# Altium integrated library PLD Supported Devices.IntLib: 344 symbols (part 5 of 6)
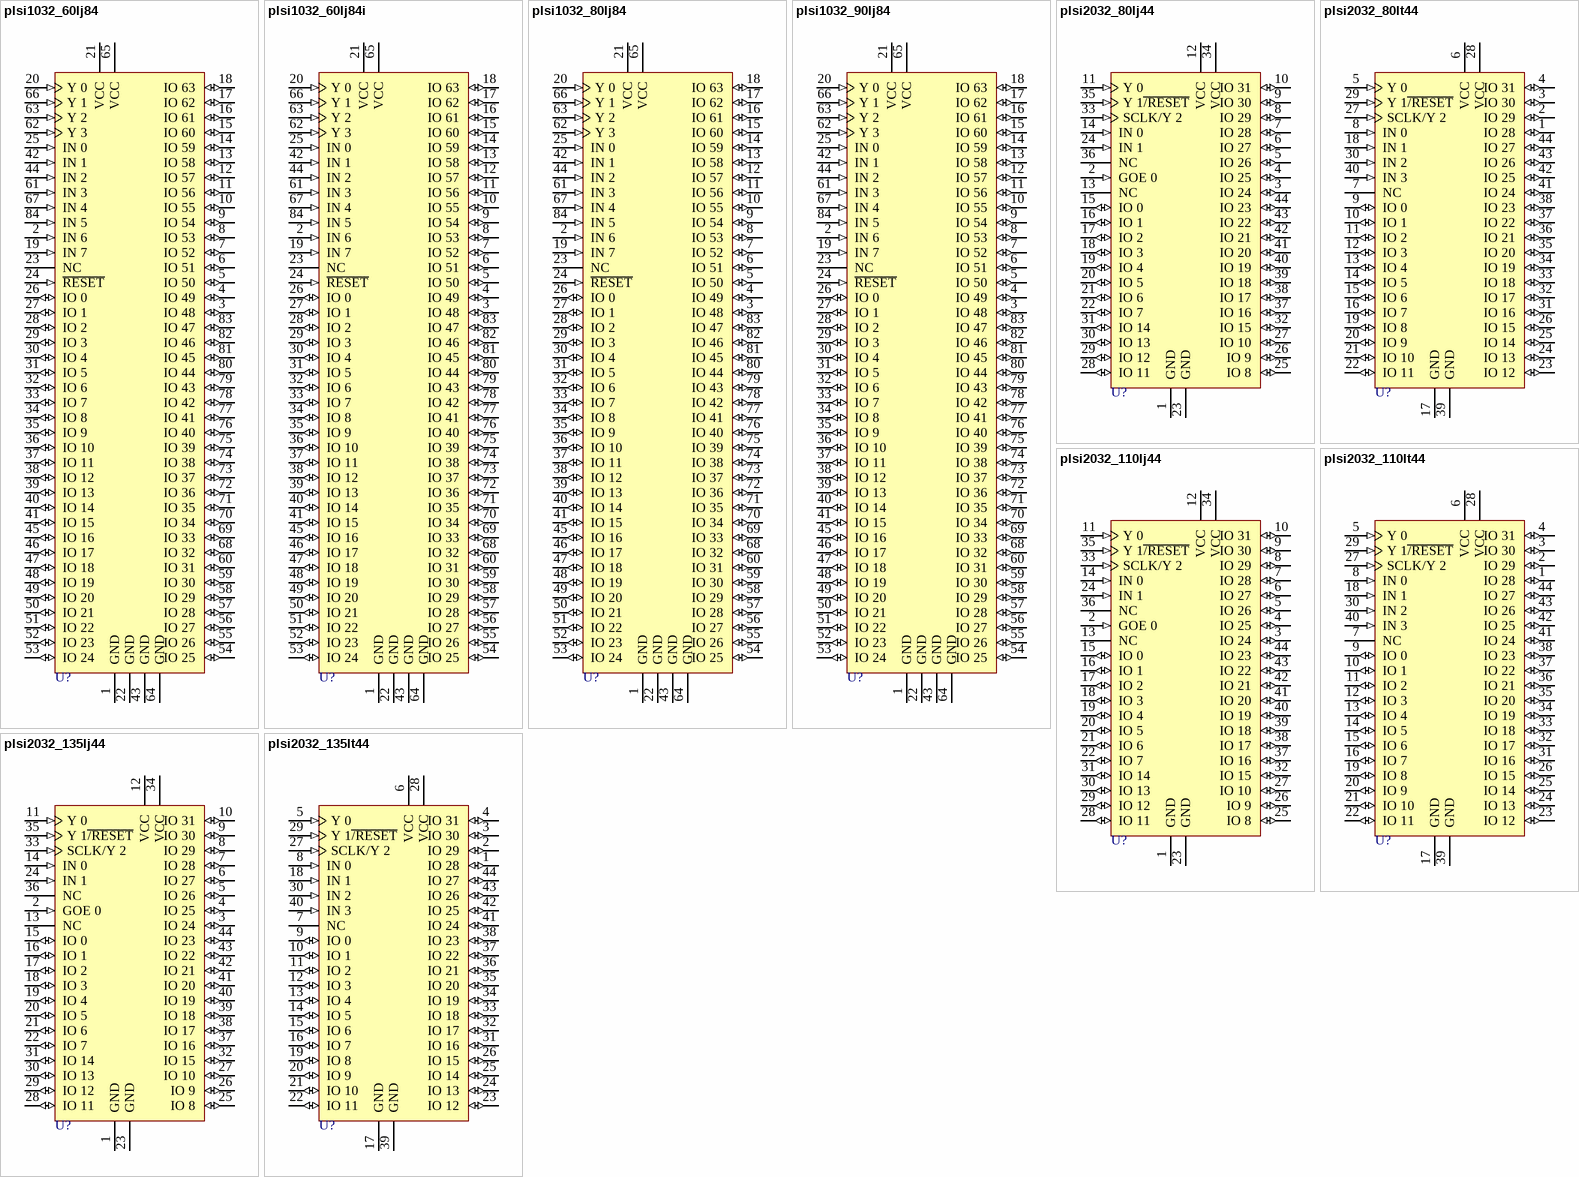
[diagram p22: symbols plsi1032_60lj84 to plsi2032_135lt44]

## plsi1032_60lj84i
designator U?
Programmable Large Scale Integration High-Density Programmable Logic; Published: 16-Jul-2002; LatestRevisionDate: 17-Jul-2002; LatestRevisionNote: Re-released for DXP Platform.; Publisher: Altium Limited
footprint QCC-J84
pins: 1 GND (power), 2 IN 6 (in), 3 IO 48 (io), 4 IO 49 (io), 5 IO 50 (io), 6 IO 51 (io), 7 IO 52 (io), 8 IO 53 (io), 9 IO 54 (io), 10 IO 55 (io), 11 IO 56 (io), 12 IO 57 (io), 13 IO 58 (io), 14 IO 59 (io), 15 IO 60 (io), 16 IO 61 (io), 17 IO 62 (io), 18 IO 63 (io), 19 IN 7 (in), 20 Y 0 (in), 21 VCC (power), 22 GND (power), 23 NC, 24 ~{RESET} (in), 25 IN 0 (in), 26 IO 0 (io), 27 IO 1 (io), 28 IO 2 (io), 29 IO 3 (io), 30 IO 4 (io), 31 IO 5 (io), 32 IO 6 (io), 33 IO 7 (io), 34 IO 8 (io), 35 IO 9 (io), 36 IO 10 (io), 37 IO 11 (io), 38 IO 12 (io), 39 IO 13 (io), 40 IO 14 (io), 41 IO 15 (io), 42 IN 1 (in), 43 GND (power), 44 IN 2 (in), 45 IO 16 (io), 46 IO 17 (io), 47 IO 18 (io), 48 IO 19 (io), 49 IO 20 (io), 50 IO 21 (io), 51 IO 22 (io), 52 IO 23 (io), 53 IO 24 (io), 54 IO 25 (io), 55 IO 26 (io), 56 IO 27 (io), 57 IO 28 (io), 58 IO 29 (io), 59 IO 30 (io), 60 IO 31 (io), 61 IN 3 (in), 62 Y 3 (in), 63 Y 2 (in), 64 GND (power), 65 VCC (power), 66 Y 1 (in), 67 IN 4 (in), 68 IO 32 (io), 69 IO 33 (io), 70 IO 34 (io), 71 IO 35 (io), 72 IO 36 (io), 73 IO 37 (io), 74 IO 38 (io), 75 IO 39 (io), 76 IO 40 (io), 77 IO 41 (io), 78 IO 42 (io), 79 IO 43 (io), 80 IO 44 (io), 81 IO 45 (io), 82 IO 46 (io), 83 IO 47 (io), 84 IN 5 (in)

## plsi1032_80lj84
designator U?
Programmable Large Scale Integration High-Density Programmable Logic; Published: 16-Jul-2002; LatestRevisionDate: 17-Jul-2002; LatestRevisionNote: Re-released for DXP Platform.; Publisher: Altium Limited
footprint QCC-J84
pins: 1 GND (power), 2 IN 6 (in), 3 IO 48 (io), 4 IO 49 (io), 5 IO 50 (io), 6 IO 51 (io), 7 IO 52 (io), 8 IO 53 (io), 9 IO 54 (io), 10 IO 55 (io), 11 IO 56 (io), 12 IO 57 (io), 13 IO 58 (io), 14 IO 59 (io), 15 IO 60 (io), 16 IO 61 (io), 17 IO 62 (io), 18 IO 63 (io), 19 IN 7 (in), 20 Y 0 (in), 21 VCC (power), 22 GND (power), 23 NC, 24 ~{RESET} (in), 25 IN 0 (in), 26 IO 0 (io), 27 IO 1 (io), 28 IO 2 (io), 29 IO 3 (io), 30 IO 4 (io), 31 IO 5 (io), 32 IO 6 (io), 33 IO 7 (io), 34 IO 8 (io), 35 IO 9 (io), 36 IO 10 (io), 37 IO 11 (io), 38 IO 12 (io), 39 IO 13 (io), 40 IO 14 (io), 41 IO 15 (io), 42 IN 1 (in), 43 GND (power), 44 IN 2 (in), 45 IO 16 (io), 46 IO 17 (io), 47 IO 18 (io), 48 IO 19 (io), 49 IO 20 (io), 50 IO 21 (io), 51 IO 22 (io), 52 IO 23 (io), 53 IO 24 (io), 54 IO 25 (io), 55 IO 26 (io), 56 IO 27 (io), 57 IO 28 (io), 58 IO 29 (io), 59 IO 30 (io), 60 IO 31 (io), 61 IN 3 (in), 62 Y 3 (in), 63 Y 2 (in), 64 GND (power), 65 VCC (power), 66 Y 1 (in), 67 IN 4 (in), 68 IO 32 (io), 69 IO 33 (io), 70 IO 34 (io), 71 IO 35 (io), 72 IO 36 (io), 73 IO 37 (io), 74 IO 38 (io), 75 IO 39 (io), 76 IO 40 (io), 77 IO 41 (io), 78 IO 42 (io), 79 IO 43 (io), 80 IO 44 (io), 81 IO 45 (io), 82 IO 46 (io), 83 IO 47 (io), 84 IN 5 (in)

## plsi1032_90lj84
designator U?
Programmable Large Scale Integration High-Density Programmable Logic; Published: 16-Jul-2002; LatestRevisionDate: 17-Jul-2002; LatestRevisionNote: Re-released for DXP Platform.; Publisher: Altium Limited
footprint QCC-J84
pins: 1 GND (power), 2 IN 6 (in), 3 IO 48 (io), 4 IO 49 (io), 5 IO 50 (io), 6 IO 51 (io), 7 IO 52 (io), 8 IO 53 (io), 9 IO 54 (io), 10 IO 55 (io), 11 IO 56 (io), 12 IO 57 (io), 13 IO 58 (io), 14 IO 59 (io), 15 IO 60 (io), 16 IO 61 (io), 17 IO 62 (io), 18 IO 63 (io), 19 IN 7 (in), 20 Y 0 (in), 21 VCC (power), 22 GND (power), 23 NC, 24 ~{RESET} (in), 25 IN 0 (in), 26 IO 0 (io), 27 IO 1 (io), 28 IO 2 (io), 29 IO 3 (io), 30 IO 4 (io), 31 IO 5 (io), 32 IO 6 (io), 33 IO 7 (io), 34 IO 8 (io), 35 IO 9 (io), 36 IO 10 (io), 37 IO 11 (io), 38 IO 12 (io), 39 IO 13 (io), 40 IO 14 (io), 41 IO 15 (io), 42 IN 1 (in), 43 GND (power), 44 IN 2 (in), 45 IO 16 (io), 46 IO 17 (io), 47 IO 18 (io), 48 IO 19 (io), 49 IO 20 (io), 50 IO 21 (io), 51 IO 22 (io), 52 IO 23 (io), 53 IO 24 (io), 54 IO 25 (io), 55 IO 26 (io), 56 IO 27 (io), 57 IO 28 (io), 58 IO 29 (io), 59 IO 30 (io), 60 IO 31 (io), 61 IN 3 (in), 62 Y 3 (in), 63 Y 2 (in), 64 GND (power), 65 VCC (power), 66 Y 1 (in), 67 IN 4 (in), 68 IO 32 (io), 69 IO 33 (io), 70 IO 34 (io), 71 IO 35 (io), 72 IO 36 (io), 73 IO 37 (io), 74 IO 38 (io), 75 IO 39 (io), 76 IO 40 (io), 77 IO 41 (io), 78 IO 42 (io), 79 IO 43 (io), 80 IO 44 (io), 81 IO 45 (io), 82 IO 46 (io), 83 IO 47 (io), 84 IN 5 (in)

## plsi2032_80lj44
designator U?
In-System Programmable Large Scale Integration High-Density Programmable Logic; Published: 16-Jul-2002; LatestRevisionDate: 17-Jul-2002; LatestRevisionNote: Re-released for DXP Platform.; Publisher: Altium Limited
footprint QCC-J44
pins: 1 GND (power), 2 GOE 0 (in), 3 IO 24 (io), 4 IO 25 (io), 5 IO 26 (io), 6 IO 27 (io), 7 IO 28 (io), 8 IO 29 (io), 9 IO 30 (io), 10 IO 31 (io), 11 Y 0 (in), 12 VCC (power), 13 NC, 14 IN 0 (in), 15 IO 0 (io), 16 IO 1 (io), 17 IO 2 (io), 18 IO 3 (io), 19 IO 4 (io), 20 IO 5 (io), 21 IO 6 (io), 22 IO 7 (io), 23 GND (power), 24 IN 1 (in), 25 IO 8 (io), 26 IO 9 (io), 27 IO 10 (io), 28 IO 11 (io), 29 IO 12 (io), 30 IO 13 (io), 31 IO 14 (io), 32 IO 15 (io), 33 SCLK/Y 2 (in), 34 VCC (power), 35 Y 1~{/RESET} (in), 36 NC, 37 IO 16 (io), 38 IO 17 (io), 39 IO 18 (io), 40 IO 19 (io), 41 IO 20 (io), 42 IO 21 (io), 43 IO 22 (io), 44 IO 23 (io)

## plsi2032_80lt44
designator U?
In-System Programmable Large Scale Integration High-Density Programmable Logic; Published: 16-Jul-2002; LatestRevisionDate: 17-Jul-2002; LatestRevisionNote: Re-released for DXP Platform.; Publisher: Altium Limited
footprint QFP10x10-G44/X.5N
pins: 1 IO 28 (io), 2 IO 29 (io), 3 IO 30 (io), 4 IO 31 (io), 5 Y 0 (in), 6 VCC (power), 7 NC, 8 IN 0 (in), 9 IO 0 (io), 10 IO 1 (io), 11 IO 2 (io), 12 IO 3 (io), 13 IO 4 (io), 14 IO 5 (io), 15 IO 6 (io), 16 IO 7 (io), 17 GND (power), 18 IN 1 (in), 19 IO 8 (io), 20 IO 9 (io), 21 IO 10 (io), 22 IO 11 (io), 23 IO 12 (io), 24 IO 13 (io), 25 IO 14 (io), 26 IO 15 (io), 27 SCLK/Y 2 (in), 28 VCC (power), 29 Y 1~{/RESET} (in), 30 IN 2 (in), 31 IO 16 (io), 32 IO 17 (io), 33 IO 18 (io), 34 IO 19 (io), 35 IO 20 (io), 36 IO 21 (io), 37 IO 22 (io), 38 IO 23 (io), 39 GND (power), 40 IN 3 (in), 41 IO 24 (io), 42 IO 25 (io), 43 IO 26 (io), 44 IO 27 (io)

## plsi2032_110lj44
designator U?
In-System Programmable Large Scale Integration High-Density Programmable Logic; Published: 16-Jul-2002; LatestRevisionDate: 17-Jul-2002; LatestRevisionNote: Re-released for DXP Platform.; Publisher: Altium Limited
footprint QCC-J44
pins: 1 GND (power), 2 GOE 0 (in), 3 IO 24 (io), 4 IO 25 (io), 5 IO 26 (io), 6 IO 27 (io), 7 IO 28 (io), 8 IO 29 (io), 9 IO 30 (io), 10 IO 31 (io), 11 Y 0 (in), 12 VCC (power), 13 NC, 14 IN 0 (in), 15 IO 0 (io), 16 IO 1 (io), 17 IO 2 (io), 18 IO 3 (io), 19 IO 4 (io), 20 IO 5 (io), 21 IO 6 (io), 22 IO 7 (io), 23 GND (power), 24 IN 1 (in), 25 IO 8 (io), 26 IO 9 (io), 27 IO 10 (io), 28 IO 11 (io), 29 IO 12 (io), 30 IO 13 (io), 31 IO 14 (io), 32 IO 15 (io), 33 SCLK/Y 2 (in), 34 VCC (power), 35 Y 1~{/RESET} (in), 36 NC, 37 IO 16 (io), 38 IO 17 (io), 39 IO 18 (io), 40 IO 19 (io), 41 IO 20 (io), 42 IO 21 (io), 43 IO 22 (io), 44 IO 23 (io)

## plsi2032_110lt44
designator U?
In-System Programmable Large Scale Integration High-Density Programmable Logic; Published: 16-Jul-2002; LatestRevisionDate: 17-Jul-2002; LatestRevisionNote: Re-released for DXP Platform.; Publisher: Altium Limited
footprint QFP10x10-G44/X.5N
pins: 1 IO 28 (io), 2 IO 29 (io), 3 IO 30 (io), 4 IO 31 (io), 5 Y 0 (in), 6 VCC (power), 7 NC, 8 IN 0 (in), 9 IO 0 (io), 10 IO 1 (io), 11 IO 2 (io), 12 IO 3 (io), 13 IO 4 (io), 14 IO 5 (io), 15 IO 6 (io), 16 IO 7 (io), 17 GND (power), 18 IN 1 (in), 19 IO 8 (io), 20 IO 9 (io), 21 IO 10 (io), 22 IO 11 (io), 23 IO 12 (io), 24 IO 13 (io), 25 IO 14 (io), 26 IO 15 (io), 27 SCLK/Y 2 (in), 28 VCC (power), 29 Y 1~{/RESET} (in), 30 IN 2 (in), 31 IO 16 (io), 32 IO 17 (io), 33 IO 18 (io), 34 IO 19 (io), 35 IO 20 (io), 36 IO 21 (io), 37 IO 22 (io), 38 IO 23 (io), 39 GND (power), 40 IN 3 (in), 41 IO 24 (io), 42 IO 25 (io), 43 IO 26 (io), 44 IO 27 (io)

## plsi2032_135lj44
designator U?
In-System Programmable Large Scale Integration High-Density Programmable Logic; Published: 16-Jul-2002; LatestRevisionDate: 17-Jul-2002; LatestRevisionNote: Re-released for DXP Platform.; Publisher: Altium Limited
footprint QCC-J44
pins: 1 GND (power), 2 GOE 0 (in), 3 IO 24 (io), 4 IO 25 (io), 5 IO 26 (io), 6 IO 27 (io), 7 IO 28 (io), 8 IO 29 (io), 9 IO 30 (io), 10 IO 31 (io), 11 Y 0 (in), 12 VCC (power), 13 NC, 14 IN 0 (in), 15 IO 0 (io), 16 IO 1 (io), 17 IO 2 (io), 18 IO 3 (io), 19 IO 4 (io), 20 IO 5 (io), 21 IO 6 (io), 22 IO 7 (io), 23 GND (power), 24 IN 1 (in), 25 IO 8 (io), 26 IO 9 (io), 27 IO 10 (io), 28 IO 11 (io), 29 IO 12 (io), 30 IO 13 (io), 31 IO 14 (io), 32 IO 15 (io), 33 SCLK/Y 2 (in), 34 VCC (power), 35 Y 1~{/RESET} (in), 36 NC, 37 IO 16 (io), 38 IO 17 (io), 39 IO 18 (io), 40 IO 19 (io), 41 IO 20 (io), 42 IO 21 (io), 43 IO 22 (io), 44 IO 23 (io)

## plsi2032_135lt44
designator U?
In-System Programmable Large Scale Integration High-Density Programmable Logic; Published: 16-Jul-2002; LatestRevisionDate: 17-Jul-2002; LatestRevisionNote: Re-released for DXP Platform.; Publisher: Altium Limited
footprint QFP10x10-G44/X.5N
pins: 1 IO 28 (io), 2 IO 29 (io), 3 IO 30 (io), 4 IO 31 (io), 5 Y 0 (in), 6 VCC (power), 7 NC, 8 IN 0 (in), 9 IO 0 (io), 10 IO 1 (io), 11 IO 2 (io), 12 IO 3 (io), 13 IO 4 (io), 14 IO 5 (io), 15 IO 6 (io), 16 IO 7 (io), 17 GND (power), 18 IN 1 (in), 19 IO 8 (io), 20 IO 9 (io), 21 IO 10 (io), 22 IO 11 (io), 23 IO 12 (io), 24 IO 13 (io), 25 IO 14 (io), 26 IO 15 (io), 27 SCLK/Y 2 (in), 28 VCC (power), 29 Y 1~{/RESET} (in), 30 IN 2 (in), 31 IO 16 (io), 32 IO 17 (io), 33 IO 18 (io), 34 IO 19 (io), 35 IO 20 (io), 36 IO 21 (io), 37 IO 22 (io), 38 IO 23 (io), 39 GND (power), 40 IN 3 (in), 41 IO 24 (io), 42 IO 25 (io), 43 IO 26 (io), 44 IO 27 (io)

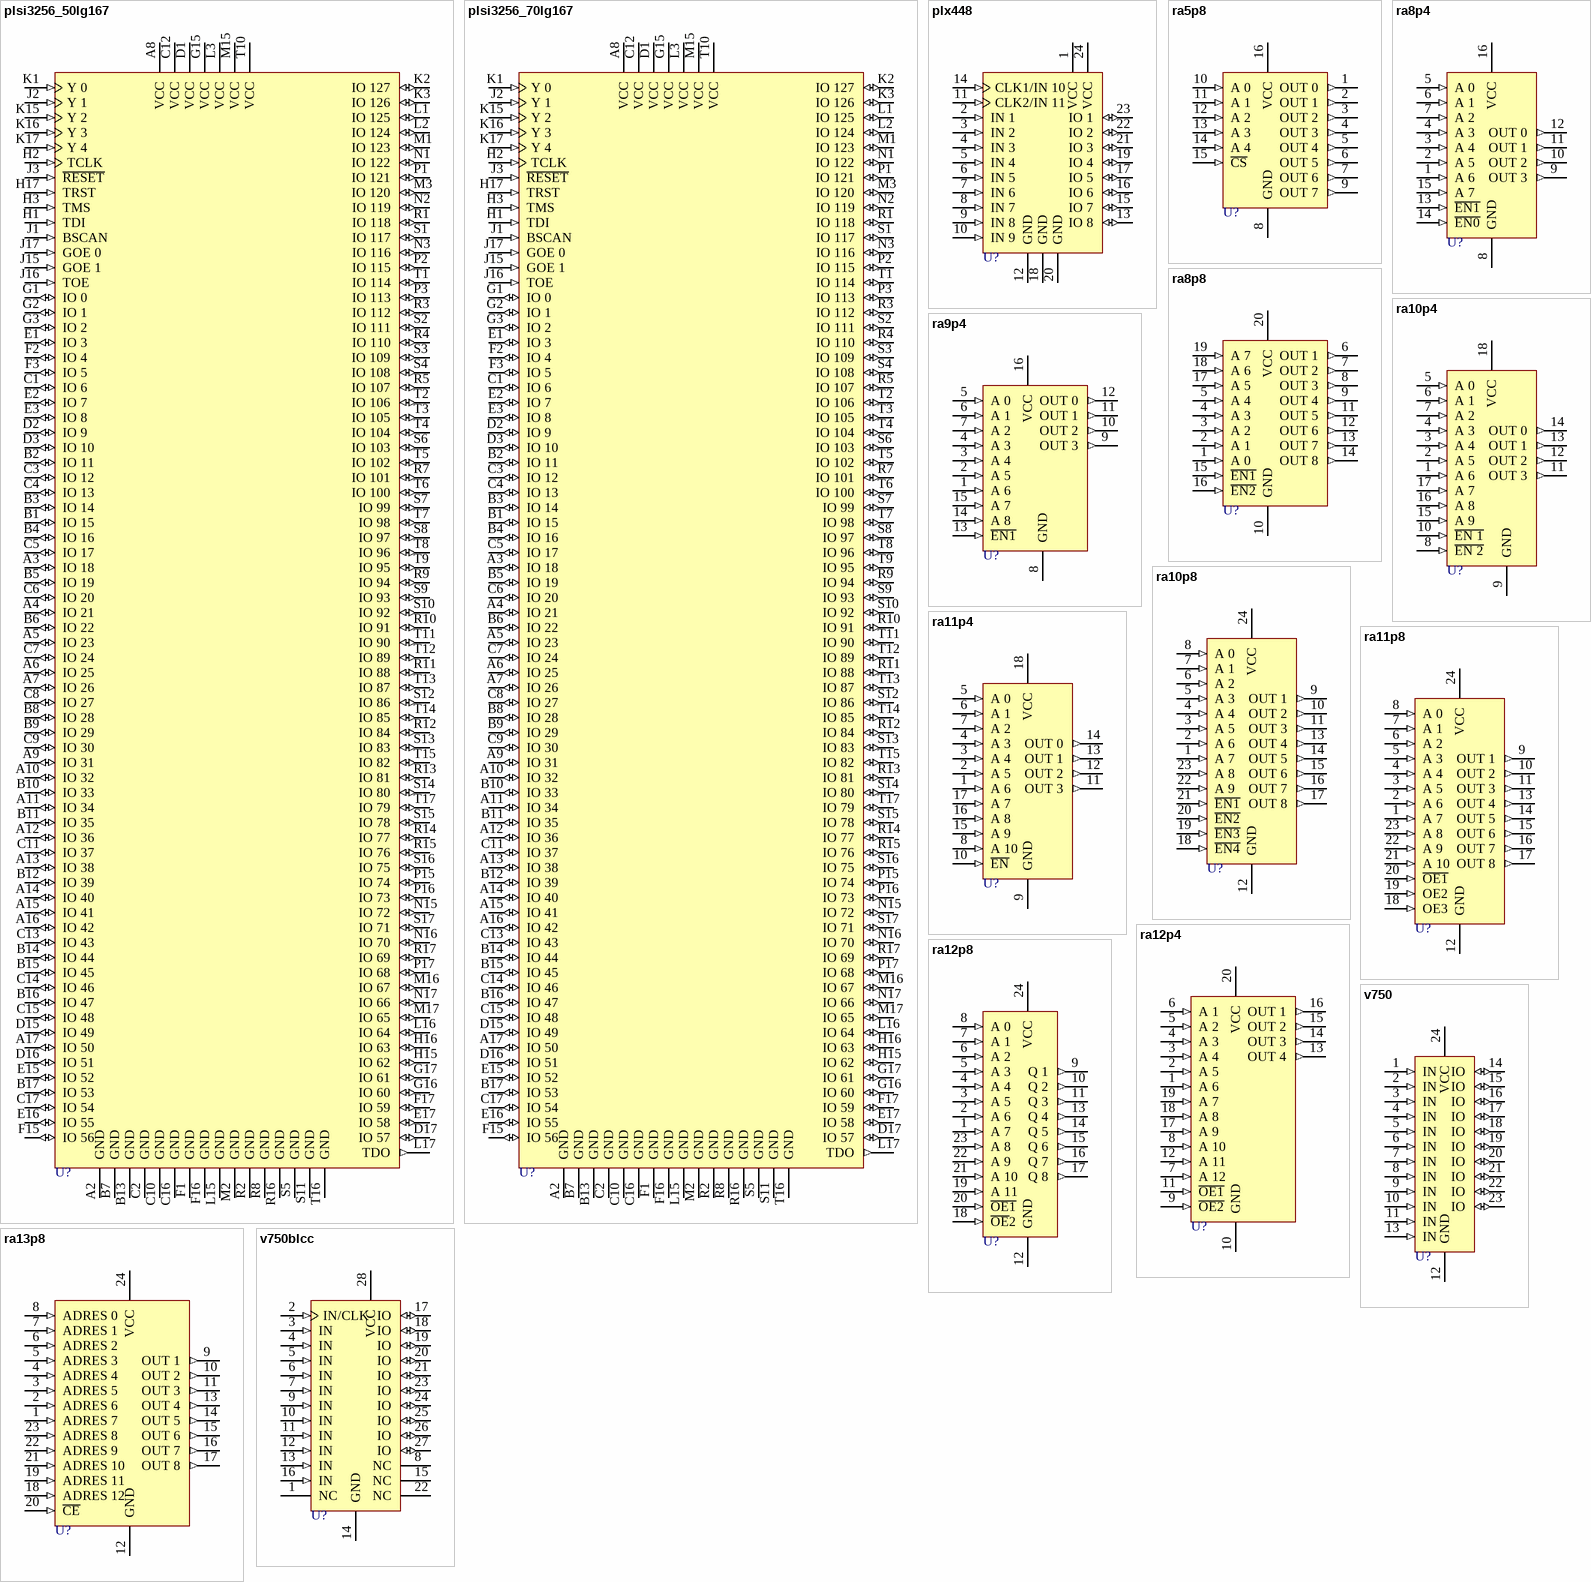
[diagram p15: symbols plsi3256_50lg167 to v750blcc]

## plsi3256_50lg167
designator U?
High-Density Programmable Logic; Published: 16-Jul-2002; LatestRevisionDate: 17-Jul-2002; LatestRevisionNote: Re-released for DXP Platform.; Publisher: Altium Limited
pins: A2 GND (power), A3 IO 18 (io), A4 IO 21 (io), A5 IO 23 (io), A6 IO 25 (io), A7 IO 26 (io), A8 VCC (power), A9 IO 31 (io), A10 IO 32 (io), A11 IO 34 (io), A12 IO 36 (io), A13 IO 38 (io), A14 IO 40 (io), A15 IO 41 (io), A16 IO 42 (io), A17 IO 50 (io), B1 IO 15 (io), B2 IO 11 (io), B3 IO 14 (io), B4 IO 16 (io), B5 IO 19 (io), B6 IO 22 (io), B7 GND (power), B8 IO 28 (io), B9 IO 29 (io), B10 IO 33 (io), B11 IO 35 (io), B12 IO 39 (io), B13 GND (power), B14 IO 44 (io), B15 IO 45 (io), B16 IO 47 (io), B17 IO 53 (io), C1 IO 6 (io), C2 GND (power), C3 IO 12 (io), C4 IO 13 (io), C5 IO 17 (io), C6 IO 20 (io), C7 IO 24 (io), C8 IO 27 (io), C9 IO 30 (io), C10 GND (power), C11 IO 37 (io), C12 VCC (power), C13 IO 43 (io), C14 IO 46 (io), C15 IO 48 (io), C16 GND (power), C17 IO 54 (io), D1 VCC (power), D2 IO 9 (io), D3 IO 10 (io), D15 IO 49 (io), D16 IO 51 (io), D17 IO 57 (io), E1 IO 3 (io), E2 IO 7 (io), E3 IO 8 (io), E15 IO 52 (io), E16 IO 55 (io), E17 IO 58 (io), F1 GND (power), F2 IO 4 (io), F3 IO 5 (io), F15 IO 56 (io), F16 GND (power), F17 IO 59 (io), G1 IO 0 (io), G2 IO 1 (io), G3 IO 2 (io), G15 VCC (power), G16 IO 60 (io), G17 IO 61 (io), H1 TDI (in), H2 TCLK (in), H3 TMS (in), H15 IO 62 (io), H16 IO 63 (io), H17 TRST (in), J1 BSCAN (in), J2 Y 1 (in), J3 ~{RESET} (in), J15 GOE 1 (in), J16 TOE (in), J17 GOE 0 (in), K1 Y 0 (in), K2 IO 127 (io), K3 IO 126 (io), K15 Y 2 (in), K16 Y 3 (in), K17 Y 4 (in), L1 IO 125 (io), L2 IO 124 (io), L3 VCC (power), L15 GND (power), L16 IO 64 (io), L17 TDO (out), M1 IO 123 (io), M2 GND (power), M3 IO 120 (io), M15 VCC (power), M16 IO 67 (io), M17 IO 65 (io), N1 IO 122 (io), N2 IO 119 (io), N3 IO 116 (io), N15 IO 72 (io), N16 IO 70 (io), N17 IO 66 (io), P1 IO 121 (io), P2 IO 115 (io), P3 IO 113 (io), P15 IO 74 (io), P16 IO 73 (io), P17 IO 68 (io), R1 IO 118 (io), R2 GND (power), R3 IO 112 (io), R4 IO 110 (io), R5 IO 107 (io), R7 IO 101 (io), R8 GND (power), R9 IO 94 (io), R10 IO 91 (io), R11 IO 88 (io), R12 IO 84 (io), R13 IO 81 (io), R14 IO 77 (io), R15 IO 76 (io), R16 GND (power), R17 IO 69 (io), S1 IO 117 (io), S2 IO 111 (io), S3 IO 109 (io), S4 IO 108 (io), S5 GND (power), S6 IO 103 (io), S7 IO 99 (io), S8 IO 97 (io), S9 IO 93 (io), S10 IO 92 (io), S11 GND (power), S12 IO 86 (io), S13 IO 83 (io), S14 IO 80 (io), S15 IO 78 (io), S16 IO 75 (io), S17 IO 71 (io), T1 IO 114 (io), T2 IO 106 (io), T3 IO 105 (io), T4 IO 104 (io), T5 IO 102 (io), T6 IO 100 (io), T7 IO 98 (io), T8 IO 96 (io), T9 IO 95 (io), T10 VCC (power), T11 IO 90 (io), T12 IO 89 (io), T13 IO 87 (io), T14 IO 85 (io), T15 IO 82 (io), T16 GND (power), T17 IO 79 (io)

## plsi3256_70lg167
designator U?
High-Density Programmable Logic; Published: 16-Jul-2002; LatestRevisionDate: 17-Jul-2002; LatestRevisionNote: Re-released for DXP Platform.; Publisher: Altium Limited
pins: A2 GND (power), A3 IO 18 (io), A4 IO 21 (io), A5 IO 23 (io), A6 IO 25 (io), A7 IO 26 (io), A8 VCC (power), A9 IO 31 (io), A10 IO 32 (io), A11 IO 34 (io), A12 IO 36 (io), A13 IO 38 (io), A14 IO 40 (io), A15 IO 41 (io), A16 IO 42 (io), A17 IO 50 (io), B1 IO 15 (io), B2 IO 11 (io), B3 IO 14 (io), B4 IO 16 (io), B5 IO 19 (io), B6 IO 22 (io), B7 GND (power), B8 IO 28 (io), B9 IO 29 (io), B10 IO 33 (io), B11 IO 35 (io), B12 IO 39 (io), B13 GND (power), B14 IO 44 (io), B15 IO 45 (io), B16 IO 47 (io), B17 IO 53 (io), C1 IO 6 (io), C2 GND (power), C3 IO 12 (io), C4 IO 13 (io), C5 IO 17 (io), C6 IO 20 (io), C7 IO 24 (io), C8 IO 27 (io), C9 IO 30 (io), C10 GND (power), C11 IO 37 (io), C12 VCC (power), C13 IO 43 (io), C14 IO 46 (io), C15 IO 48 (io), C16 GND (power), C17 IO 54 (io), D1 VCC (power), D2 IO 9 (io), D3 IO 10 (io), D15 IO 49 (io), D16 IO 51 (io), D17 IO 57 (io), E1 IO 3 (io), E2 IO 7 (io), E3 IO 8 (io), E15 IO 52 (io), E16 IO 55 (io), E17 IO 58 (io), F1 GND (power), F2 IO 4 (io), F3 IO 5 (io), F15 IO 56 (io), F16 GND (power), F17 IO 59 (io), G1 IO 0 (io), G2 IO 1 (io), G3 IO 2 (io), G15 VCC (power), G16 IO 60 (io), G17 IO 61 (io), H1 TDI (in), H2 TCLK (in), H3 TMS (in), H15 IO 62 (io), H16 IO 63 (io), H17 TRST (in), J1 BSCAN (in), J2 Y 1 (in), J3 ~{RESET} (in), J15 GOE 1 (in), J16 TOE (in), J17 GOE 0 (in), K1 Y 0 (in), K2 IO 127 (io), K3 IO 126 (io), K15 Y 2 (in), K16 Y 3 (in), K17 Y 4 (in), L1 IO 125 (io), L2 IO 124 (io), L3 VCC (power), L15 GND (power), L16 IO 64 (io), L17 TDO (out), M1 IO 123 (io), M2 GND (power), M3 IO 120 (io), M15 VCC (power), M16 IO 67 (io), M17 IO 65 (io), N1 IO 122 (io), N2 IO 119 (io), N3 IO 116 (io), N15 IO 72 (io), N16 IO 70 (io), N17 IO 66 (io), P1 IO 121 (io), P2 IO 115 (io), P3 IO 113 (io), P15 IO 74 (io), P16 IO 73 (io), P17 IO 68 (io), R1 IO 118 (io), R2 GND (power), R3 IO 112 (io), R4 IO 110 (io), R5 IO 107 (io), R7 IO 101 (io), R8 GND (power), R9 IO 94 (io), R10 IO 91 (io), R11 IO 88 (io), R12 IO 84 (io), R13 IO 81 (io), R14 IO 77 (io), R15 IO 76 (io), R16 GND (power), R17 IO 69 (io), S1 IO 117 (io), S2 IO 111 (io), S3 IO 109 (io), S4 IO 108 (io), S5 GND (power), S6 IO 103 (io), S7 IO 99 (io), S8 IO 97 (io), S9 IO 93 (io), S10 IO 92 (io), S11 GND (power), S12 IO 86 (io), S13 IO 83 (io), S14 IO 80 (io), S15 IO 78 (io), S16 IO 75 (io), S17 IO 71 (io), T1 IO 114 (io), T2 IO 106 (io), T3 IO 105 (io), T4 IO 104 (io), T5 IO 102 (io), T6 IO 100 (io), T7 IO 98 (io), T8 IO 96 (io), T9 IO 95 (io), T10 VCC (power), T11 IO 90 (io), T12 IO 89 (io), T13 IO 87 (io), T14 IO 85 (io), T15 IO 82 (io), T16 GND (power), T17 IO 79 (io)

## plx448
designator U?
High-Drive Current, PLD for Bus Interface Applications; Published: 16-Jul-2002; LatestRevisionDate: 17-Jul-2002; LatestRevisionNote: Re-released for DXP Platform.; Publisher: Altium Limited
footprint DIP-24/D31
pins: 1 VCC (power), 2 IN 1 (in), 3 IN 2 (in), 4 IN 3 (in), 5 IN 4 (in), 6 IN 5 (in), 7 IN 6 (in), 8 IN 7 (in), 9 IN 8 (in), 10 IN 9 (in), 11 CLK2/IN 11 (in), 12 GND (power), 13 IO 8 (io), 14 CLK1/IN 10 (in), 15 IO 7 (io), 16 IO 6 (io), 17 IO 5 (io), 18 GND (power), 19 IO 4 (io), 20 GND (power), 21 IO 3 (io), 22 IO 2 (io), 23 IO 1 (io), 24 VCC (power)

## ra5p8
designator U?
Low-Power Schotty 256-Bit Generic Series Bipolar PROM; Published: 16-Jul-2002; LatestRevisionDate: 17-Jul-2002; LatestRevisionNote: Re-released for DXP Platform.; Publisher: Altium Limited
footprint DIP-16/X1.5
pins: 1 OUT 0 (out), 2 OUT 1 (out), 3 OUT 2 (out), 4 OUT 3 (out), 5 OUT 4 (out), 6 OUT 5 (out), 7 OUT 6 (out), 8 GND (power), 9 OUT 7 (out), 10 A 0 (in), 11 A 1 (in), 12 A 2 (in), 13 A 3 (in), 14 A 4 (in), 15 ~{CS} (in), 16 VCC (power)

## ra8p4
designator U?
Generic NICR PROM Family; Published: 16-Jul-2002; LatestRevisionDate: 17-Jul-2002; LatestRevisionNote: Re-released for DXP Platform.; Publisher: Altium Limited
footprint DIP-16/X1.5
pins: 1 A 6 (in), 2 A 5 (in), 3 A 4 (in), 4 A 3 (in), 5 A 0 (in), 6 A 1 (in), 7 A 2 (in), 8 GND (power), 9 OUT 3 (out), 10 OUT 2 (out), 11 OUT 1 (out), 12 OUT 0 (out), 13 ~{EN1} (in), 14 ~{EN0} (in), 15 A 7 (in), 16 VCC (power)

## ra8p8
designator U?
Generic NICR PROM Family; Published: 16-Jul-2002; LatestRevisionDate: 17-Jul-2002; LatestRevisionNote: Re-released for DXP Platform.; Publisher: Altium Limited
footprint DIP-20/D25
pins: 1 A 0 (in), 2 A 1 (in), 3 A 2 (in), 4 A 3 (in), 5 A 4 (in), 6 OUT 1 (out), 7 OUT 2 (out), 8 OUT 3 (out), 9 OUT 4 (out), 10 GND (power), 11 OUT 5 (out), 12 OUT 6 (out), 13 OUT 7 (out), 14 OUT 8 (out), 15 ~{EN1} (in), 16 ~{EN2} (in), 17 A 5 (in), 18 A 6 (in), 19 A 7 (in), 20 VCC (power)

## ra9p4
designator U?
Generic NICR PROM Family; Published: 16-Jul-2002; LatestRevisionDate: 17-Jul-2002; LatestRevisionNote: Re-released for DXP Platform.; Publisher: Altium Limited
footprint DIP-16/X1.5
pins: 1 A 6 (in), 2 A 5 (in), 3 A 4 (in), 4 A 3 (in), 5 A 0 (in), 6 A 1 (in), 7 A 2 (in), 8 GND (power), 9 OUT 3 (out), 10 OUT 2 (out), 11 OUT 1 (out), 12 OUT 0 (out), 13 ~{EN1} (in), 14 A 8 (in), 15 A 7 (in), 16 VCC (power)

## ra10p4
designator U?
Generic NICR PROM Family; Published: 16-Jul-2002; LatestRevisionDate: 17-Jul-2002; LatestRevisionNote: Re-released for DXP Platform.; Publisher: Altium Limited
footprint DIP-18/D23
pins: 1 A 6 (in), 2 A 5 (in), 3 A 4 (in), 4 A 3 (in), 5 A 0 (in), 6 A 1 (in), 7 A 2 (in), 8 ~{EN 2} (in), 9 GND (power), 10 ~{EN 1} (in), 11 OUT 3 (out), 12 OUT 2 (out), 13 OUT 1 (out), 14 OUT 0 (out), 15 A 9 (in), 16 A 8 (in), 17 A 7 (in), 18 VCC (power)

## ra10p8
designator U?
Generic NICR PROM Family; Published: 16-Jul-2002; LatestRevisionDate: 17-Jul-2002; LatestRevisionNote: Re-released for DXP Platform.; Publisher: Altium Limited
footprint DIP-24/D31
pins: 1 A 7 (in), 2 A 6 (in), 3 A 5 (in), 4 A 4 (in), 5 A 3 (in), 6 A 2 (in), 7 A 1 (in), 8 A 0 (in), 9 OUT 1 (out), 10 OUT 2 (out), 11 OUT 3 (out), 12 GND (power), 13 OUT 4 (out), 14 OUT 5 (out), 15 OUT 6 (out), 16 OUT 7 (out), 17 OUT 8 (out), 18 ~{EN4} (in), 19 ~{EN3} (in), 20 ~{EN2} (in), 21 ~{EN1} (in), 22 A 9 (in), 23 A 8 (in), 24 VCC (power)

## ra11p4
designator U?
Generic NICR PROM Family; Published: 16-Jul-2002; LatestRevisionDate: 17-Jul-2002; LatestRevisionNote: Re-released for DXP Platform.; Publisher: Altium Limited
footprint DIP-18/D23
pins: 1 A 6 (in), 2 A 5 (in), 3 A 4 (in), 4 A 3 (in), 5 A 0 (in), 6 A 1 (in), 7 A 2 (in), 8 A 10 (in), 9 GND (power), 10 ~{EN} (in), 11 OUT 3 (out), 12 OUT 2 (out), 13 OUT 1 (out), 14 OUT 0 (out), 15 A 9 (in), 16 A 8 (in), 17 A 7 (in), 18 VCC (power)

## ra11p8
designator U?
High-Performance Schotty Generic PROM Family  53/63SXXX; Published: 16-Jul-2002; LatestRevisionDate: 17-Jul-2002; LatestRevisionNote: Re-released for DXP Platform.; Publisher: Altium Limited
footprint DIP-24/D31
pins: 1 A 7 (in), 2 A 6 (in), 3 A 5 (in), 4 A 4 (in), 5 A 3 (in), 6 A 2 (in), 7 A 1 (in), 8 A 0 (in), 9 OUT 1 (out), 10 OUT 2 (out), 11 OUT 3 (out), 12 GND (power), 13 OUT 4 (out), 14 OUT 5 (out), 15 OUT 6 (out), 16 OUT 7 (out), 17 OUT 8 (out), 18 OE3 (in), 19 OE2 (in), 20 ~{OE1} (in), 21 A 10 (in), 22 A 9 (in), 23 A 8 (in), 24 VCC (power)

## ra12p4
designator U?
High-Performance Schotty Generic PROM Family  53/63SXXX; Published: 16-Jul-2002; LatestRevisionDate: 17-Jul-2002; LatestRevisionNote: Re-released for DXP Platform.; Publisher: Altium Limited
footprint DIP-20/D25
pins: 1 A 6 (in), 2 A 5 (in), 3 A 4 (in), 4 A 3 (in), 5 A 2 (in), 6 A 1 (in), 7 A 12 (in), 8 A 10 (in), 9 ~{OE2} (in), 10 GND (power), 11 ~{OE1} (in), 12 A 11 (in), 13 OUT 4 (out), 14 OUT 3 (out), 15 OUT 2 (out), 16 OUT 1 (out), 17 A 9 (in), 18 A 8 (in), 19 A 7 (in), 20 VCC (power)

## ra12p8
designator U?
High-Performance 4096x8 PROM TIW PROM Family; Published: 16-Jul-2002; LatestRevisionDate: 17-Jul-2002; LatestRevisionNote: Re-released for DXP Platform.; Publisher: Altium Limited
footprint DIP-24/D31
pins: 1 A 7 (in), 2 A 6 (in), 3 A 5 (in), 4 A 4 (in), 5 A 3 (in), 6 A 2 (in), 7 A 1 (in), 8 A 0 (in), 9 Q 1 (out), 10 Q 2 (out), 11 Q 3 (out), 12 GND (power), 13 Q 4 (out), 14 Q 5 (out), 15 Q 6 (out), 16 Q 7 (out), 17 Q 8 (out), 18 ~{OE}2 (in), 19 A 11 (in), 20 ~{OE1} (in), 21 A 10 (in), 22 A 9 (in), 23 A 8 (in), 24 VCC (power)

## ra13p8
designator U?
8192x8 Generic IMOX Bipolar PROM; Published: 16-Jul-2002; LatestRevisionDate: 17-Jul-2002; LatestRevisionNote: Re-released for DXP Platform.; Publisher: Altium Limited
footprint DIP-24/D31
pins: 1 ADRES 7 (in), 2 ADRES 6 (in), 3 ADRES 5 (in), 4 ADRES 4 (in), 5 ADRES 3 (in), 6 ADRES 2 (in), 7 ADRES 1 (in), 8 ADRES 0 (in), 9 OUT 1 (out), 10 OUT 2 (out), 11 OUT 3 (out), 12 GND (power), 13 OUT 4 (out), 14 OUT 5 (out), 15 OUT 6 (out), 16 OUT 7 (out), 17 OUT 8 (out), 18 ADRES 12 (in), 19 ADRES 11 (in), 20 ~{CE} (in), 21 ADRES 10 (in), 22 ADRES 9 (in), 23 ADRES 8 (in), 24 VCC (power)

## v750
designator U?
High-Density UV Erasable Programmable Logic Device; Published: 16-Jul-2002; LatestRevisionDate: 17-Jul-2002; LatestRevisionNote: Re-released for DXP Platform.; Publisher: Altium Limited
footprint SO-G24/Y1.9
pins: 1 IN (in), 2 IN (in), 3 IN (in), 4 IN (in), 5 IN (in), 6 IN (in), 7 IN (in), 8 IN (in), 9 IN (in), 10 IN (in), 11 IN (in), 12 GND (power), 13 IN (in), 14 IO (io), 15 IO (io), 16 IO (io), 17 IO (io), 18 IO (io), 19 IO (io), 20 IO (io), 21 IO (io), 22 IO (io), 23 IO (io), 24 VCC (power)

## v750blcc
designator U?
High-Speed UV Erasable Programmable Logic Device; Published: 16-Jul-2002; LatestRevisionDate: 17-Jul-2002; LatestRevisionNote: Re-released for DXP Platform.; Publisher: Altium Limited
footprint QCC-J28/X.6
pins: 1 NC, 2 IN/CLK (in), 3 IN (in), 4 IN (in), 5 IN (in), 6 IN (in), 7 IN (in), 8 NC, 9 IN (in), 10 IN (in), 11 IN (in), 12 IN (in), 13 IN (in), 14 GND (power), 15 NC, 16 IN (in), 17 IO (io), 18 IO (io), 19 IO (io), 20 IO (io), 21 IO (io), 22 NC, 23 IO (io), 24 IO (io), 25 IO (io), 26 IO (io), 27 IO (io), 28 VCC (power)

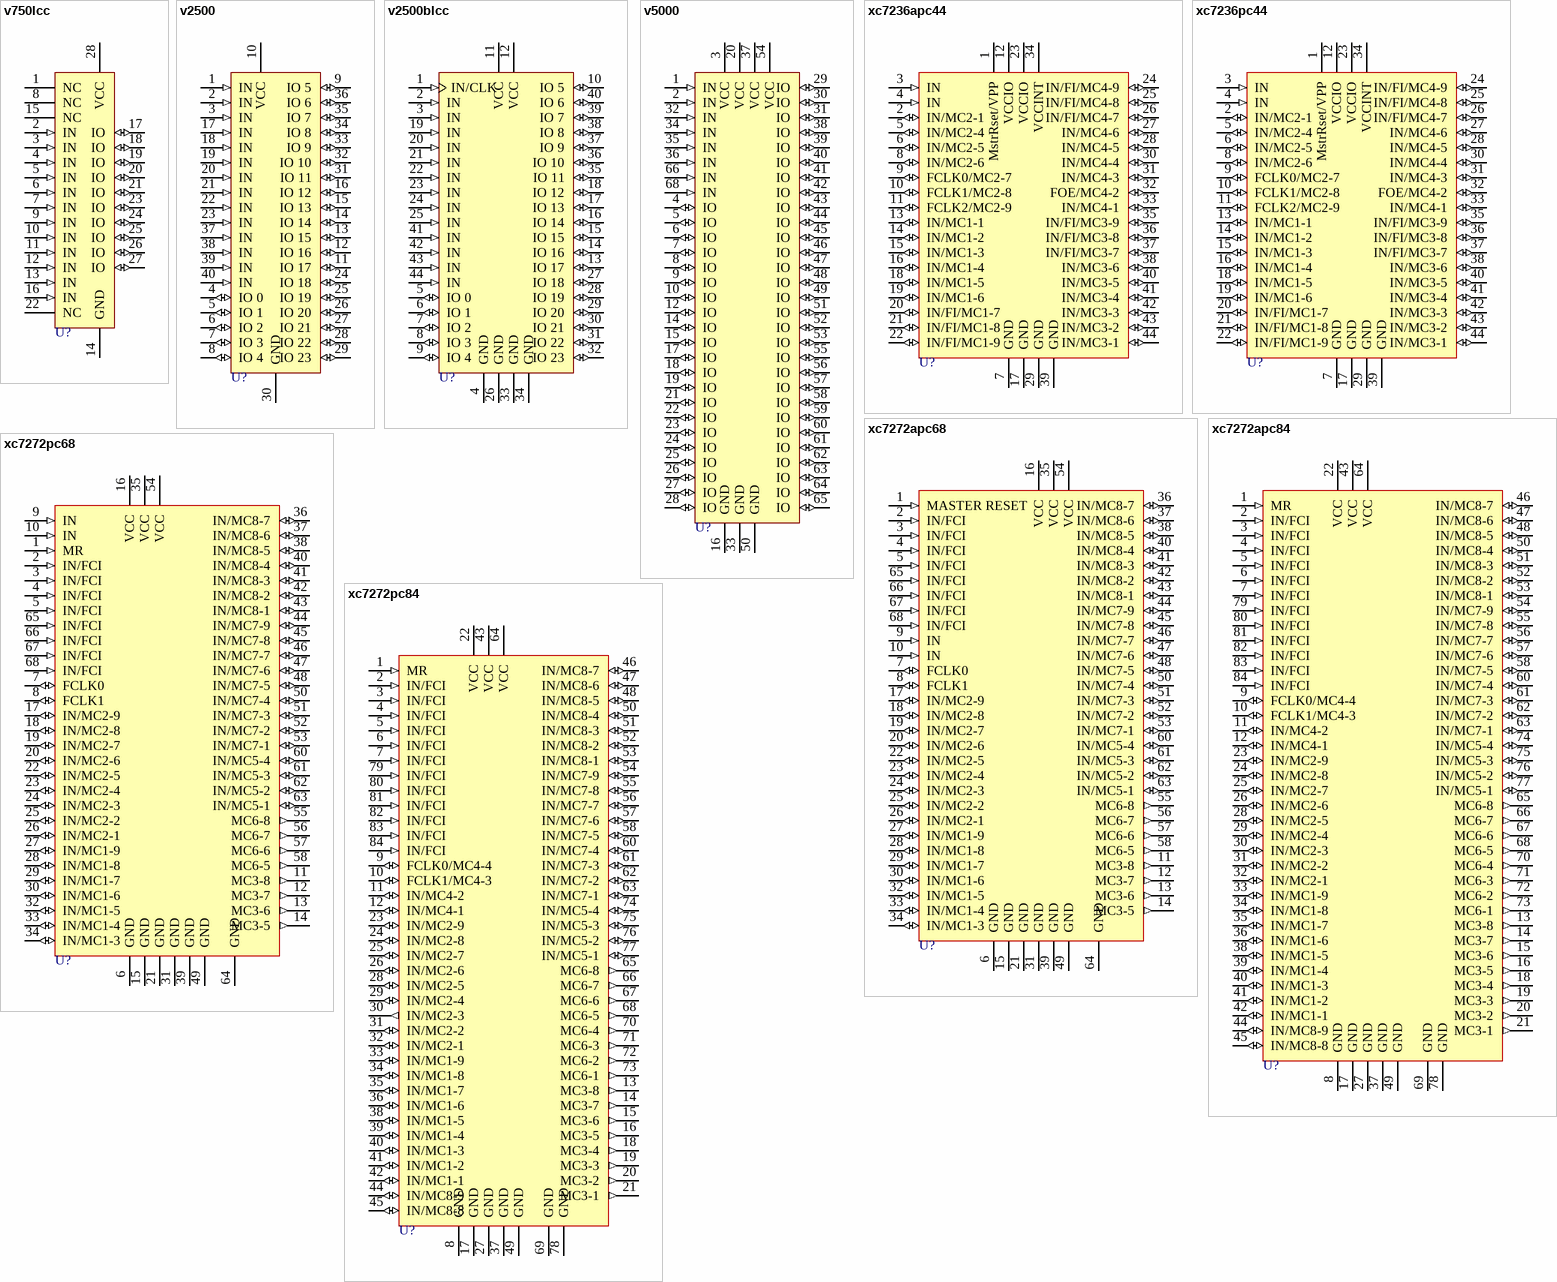
[diagram p16: symbols v750lcc to xc7272pc84]

## v750lcc
designator U?
High-Speed UV Erasable Programmable Logic Device; Published: 16-Jul-2002; LatestRevisionDate: 17-Jul-2002; LatestRevisionNote: Re-released for DXP Platform.; Publisher: Altium Limited
footprint QCC-J28/X.6
pins: 1 NC, 2 IN (in), 3 IN (in), 4 IN (in), 5 IN (in), 6 IN (in), 7 IN (in), 8 NC, 9 IN (in), 10 IN (in), 11 IN (in), 12 IN (in), 13 IN (in), 14 GND (power), 15 NC, 16 IN (in), 17 IO (io), 18 IO (io), 19 IO (io), 20 IO (io), 21 IO (io), 22 NC, 23 IO (io), 24 IO (io), 25 IO (io), 26 IO (io), 27 IO (io), 28 VCC (power)

## v2500
designator U?
High-Density UV Erasable PLD; Published: 16-Jul-2002; LatestRevisionDate: 17-Jul-2002; LatestRevisionNote: Re-released for DXP Platform.; Publisher: Altium Limited
footprint DIP-40/D53
pins: 1 IN (in), 2 IN (in), 3 IN (in), 4 IO 0 (io), 5 IO 1 (io), 6 IO 2 (io), 7 IO 3 (io), 8 IO 4 (io), 9 IO 5 (io), 10 VCC (power), 11 IO 17 (io), 12 IO 16 (io), 13 IO 15 (io), 14 IO 14 (io), 15 IO 13 (io), 16 IO 12 (io), 17 IN (in), 18 IN (in), 19 IN (in), 20 IN (in), 21 IN (in), 22 IN (in), 23 IN (in), 24 IO 18 (io), 25 IO 19 (io), 26 IO 20 (io), 27 IO 21 (io), 28 IO 22 (io), 29 IO 23 (io), 30 GND (power), 31 IO 11 (io), 32 IO 10 (io), 33 IO 9 (io), 34 IO 8 (io), 35 IO 7 (io), 36 IO 6 (io), 37 IN (in), 38 IN (in), 39 IN (in), 40 IN (in)

## v2500blcc
designator U?
High-Speed High-Density UV Erasable PLD; Published: 16-Jul-2002; LatestRevisionDate: 17-Jul-2002; LatestRevisionNote: Re-released for DXP Platform.; Publisher: Altium Limited
footprint QCC-J44
pins: 1 IN/CLK (in), 2 IN (in), 3 IN (in), 4 GND (power), 5 IO 0 (io), 6 IO 1 (io), 7 IO 2 (io), 8 IO 3 (io), 9 IO 4 (io), 10 IO 5 (io), 11 VCC (power), 12 VCC (power), 13 IO 17 (io), 14 IO 16 (io), 15 IO 15 (io), 16 IO 14 (io), 17 IO 13 (io), 18 IO 12 (io), 19 IN (in), 20 IN (in), 21 IN (in), 22 IN (in), 23 IN (in), 24 IN (in), 25 IN (in), 26 GND (power), 27 IO 18 (io), 28 IO 19 (io), 29 IO 20 (io), 30 IO 21 (io), 31 IO 22 (io), 32 IO 23 (io), 33 GND (power), 34 GND (power), 35 IO 11 (io), 36 IO 10 (io), 37 IO 9 (io), 38 IO 8 (io), 39 IO 7 (io), 40 IO 6 (io), 41 IN (in), 42 IN (in), 43 IN (in), 44 IN (in)

## v5000
designator U?
High-Density UV Erasable Programmable Logic Device; Published: 16-Jul-2002; LatestRevisionDate: 17-Jul-2002; LatestRevisionNote: Re-released for DXP Platform.; Publisher: Altium Limited
footprint QCC-J68/Z26
pins: 1 IN (in), 2 IN (in), 3 VCC (power), 4 IO (io), 5 IO (io), 6 IO (io), 7 IO (io), 8 IO (io), 9 IO (io), 10 IO (io), 12 IO (io), 14 IO (io), 15 IO (io), 16 GND (power), 17 IO (io), 18 IO (io), 19 IO (io), 20 VCC (power), 21 IO (io), 22 IO (io), 23 IO (io), 24 IO (io), 25 IO (io), 26 IO (io), 27 IO (io), 28 IO (io), 29 IO (io), 30 IO (io), 31 IO (io), 32 IN (in), 33 GND (power), 34 IN (in), 35 IN (in), 36 IN (in), 37 VCC (power), 38 IO (io), 39 IO (io), 40 IO (io), 41 IO (io), 42 IO (io), 43 IO (io), 44 IO (io), 45 IO (io), 46 IO (io), 47 IO (io), 48 IO (io), 49 IO (io), 50 GND (power), 51 IO (io), 52 IO (io), 53 IO (io), 54 VCC (power), 55 IO (io), 56 IO (io), 57 IO (io), 58 IO (io), 59 IO (io), 60 IO (io), 61 IO (io), 62 IO (io), 63 IO (io), 64 IO (io), 65 IO (io), 66 IN (in), 68 IN (in)

## xc7236apc44
designator U?
XC7200 Macrocell CMOS EPLD [SM]; Published: 16-Jul-2002; LatestRevisionDate: 17-Jul-2002; LatestRevisionNote: Re-released for DXP Platform.; Publisher: Altium Limited
footprint QCC-J44
pins: 1 MstrRset/VPP (power), 2 IN/MC2-1 (io), 3 IN (in), 4 IN (in), 5 IN/MC2-4 (io), 6 IN/MC2-5 (io), 7 GND (power), 8 IN/MC2-6 (io), 9 FCLK0/MC2-7 (io), 10 FCLK1/MC2-8 (io), 11 FCLK2/MC2-9 (io), 12 VCCIO (power), 13 IN/MC1-1 (io), 14 IN/MC1-2 (io), 15 IN/MC1-3 (io), 16 IN/MC1-4 (io), 17 GND (power), 18 IN/MC1-5 (io), 19 IN/MC1-6 (io), 20 IN/FI/MC1-7 (io), 21 IN/FI/MC1-8 (io), 22 IN/FI/MC1-9 (io), 23 VCCIO (power), 24 IN/FI/MC4-9 (io), 25 IN/FI/MC4-8 (io), 26 IN/FI/MC4-7 (io), 27 IN/MC4-6 (io), 28 IN/MC4-5 (io), 29 GND (power), 30 IN/MC4-4 (io), 31 IN/MC4-3 (io), 32 FOE/MC4-2 (io), 33 IN/MC4-1 (io), 34 VCCINT (power), 35 IN/FI/MC3-9 (io), 36 IN/FI/MC3-8 (io), 37 IN/FI/MC3-7 (io), 38 IN/MC3-6 (io), 39 GND (power), 40 IN/MC3-5 (io), 41 IN/MC3-4 (io), 42 IN/MC3-3 (io), 43 IN/MC3-2 (io), 44 IN/MC3-1 (io)

## xc7236pc44
designator U?
XC7200 Macrocell CMOS EPLD [SM]; Published: 16-Jul-2002; LatestRevisionDate: 17-Jul-2002; LatestRevisionNote: Re-released for DXP Platform.; Publisher: Altium Limited
footprint QCC-J44
pins: 1 MstrRset/VPP (power), 2 IN/MC2-1 (io), 3 IN (in), 4 IN (in), 5 IN/MC2-4 (io), 6 IN/MC2-5 (io), 7 GND (power), 8 IN/MC2-6 (io), 9 FCLK0/MC2-7 (io), 10 FCLK1/MC2-8 (io), 11 FCLK2/MC2-9 (io), 12 VCCIO (power), 13 IN/MC1-1 (io), 14 IN/MC1-2 (io), 15 IN/MC1-3 (io), 16 IN/MC1-4 (io), 17 GND (power), 18 IN/MC1-5 (io), 19 IN/MC1-6 (io), 20 IN/FI/MC1-7 (io), 21 IN/FI/MC1-8 (io), 22 IN/FI/MC1-9 (io), 23 VCCIO (power), 24 IN/FI/MC4-9 (io), 25 IN/FI/MC4-8 (io), 26 IN/FI/MC4-7 (io), 27 IN/MC4-6 (io), 28 IN/MC4-5 (io), 29 GND (power), 30 IN/MC4-4 (io), 31 IN/MC4-3 (io), 32 FOE/MC4-2 (io), 33 IN/MC4-1 (io), 34 VCCINT (power), 35 IN/FI/MC3-9 (io), 36 IN/FI/MC3-8 (io), 37 IN/FI/MC3-7 (io), 38 IN/MC3-6 (io), 39 GND (power), 40 IN/MC3-5 (io), 41 IN/MC3-4 (io), 42 IN/MC3-3 (io), 43 IN/MC3-2 (io), 44 IN/MC3-1 (io)

## xc7272apc68
designator U?
XC7200 Macrocell CMOS EPLD [SM]; Published: 16-Jul-2002; LatestRevisionDate: 17-Jul-2002; LatestRevisionNote: Re-released for DXP Platform.; Publisher: Altium Limited
footprint QCC-J68/Y1.9
pins: 1 MASTER RESET (in), 2 IN/FCI (in), 3 IN/FCI (in), 4 IN/FCI (in), 5 IN/FCI (in), 6 GND (power), 7 FCLK0 (io), 8 FCLK1 (io), 9 IN (in), 10 IN (in), 11 MC3-8 (out), 12 MC3-7 (out), 13 MC3-6 (out), 14 MC3-5 (out), 15 GND (power), 16 VCC (power), 17 IN/MC2-9 (io), 18 IN/MC2-8 (io), 19 IN/MC2-7 (io), 20 IN/MC2-6 (io), 21 GND (power), 22 IN/MC2-5 (io), 23 IN/MC2-4 (io), 24 IN/MC2-3 (io), 25 IN/MC2-2 (io), 26 IN/MC2-1 (io), 27 IN/MC1-9 (io), 28 IN/MC1-8 (io), 29 IN/MC1-7 (io), 30 IN/MC1-6 (io), 31 GND (power), 32 IN/MC1-5 (io), 33 IN/MC1-4 (io), 34 IN/MC1-3 (io), 35 VCC (power), 36 IN/MC8-7 (io), 37 IN/MC8-6 (io), 38 IN/MC8-5 (io), 39 GND (power), 40 IN/MC8-4 (io), 41 IN/MC8-3 (io), 42 IN/MC8-2 (io), 43 IN/MC8-1 (io), 44 IN/MC7-9 (io), 45 IN/MC7-8 (io), 46 IN/MC7-7 (io), 47 IN/MC7-6 (io), 48 IN/MC7-5 (io), 49 GND (power), 50 IN/MC7-4 (io), 51 IN/MC7-3 (io), 52 IN/MC7-2 (io), 53 IN/MC7-1 (io), 54 VCC (power), 55 MC6-8 (out), 56 MC6-7 (out), 57 MC6-6 (out), 58 MC6-5 (out), 59 GND hidden to GND, 60 IN/MC5-4 (io), 61 IN/MC5-3 (io), 62 IN/MC5-2 (io), 63 IN/MC5-1 (io), 64 GND (power), 65 IN/FCI (in), 66 IN/FCI (in), 67 IN/FCI (in), 68 IN/FCI (in)

## xc7272apc84
designator U?
XC7200 Macrocell CMOS EPLD [SM]; Published: 16-Jul-2002; LatestRevisionDate: 17-Jul-2002; LatestRevisionNote: Re-released for DXP Platform.; Publisher: Altium Limited
footprint QCC-J84/Y1.8
pins: 1 MR (in), 2 IN/FCI (in), 3 IN/FCI (in), 4 IN/FCI (in), 5 IN/FCI (in), 6 IN/FCI (in), 7 IN/FCI (in), 8 GND (power), 9 FCLK0/MC4-4 (io), 10 FCLK1/MC4-3 (io), 11 IN/MC4-2 (io), 12 IN/MC4-1 (io), 13 MC3-8 (out), 14 MC3-7 (out), 15 MC3-6 (out), 16 MC3-5 (out), 17 GND (power), 18 MC3-4 (out), 19 MC3-3 (out), 20 MC3-2 (out), 21 MC3-1 (out), 22 VCC (power), 23 IN/MC2-9 (io), 24 IN/MC2-8 (io), 25 IN/MC2-7 (io), 26 IN/MC2-6 (io), 27 GND (power), 28 IN/MC2-5 (io), 29 IN/MC2-4 (io), 30 IN/MC2-3 (io), 31 IN/MC2-2 (io), 32 IN/MC2-1 (io), 33 IN/MC1-9 (io), 34 IN/MC1-8 (io), 35 IN/MC1-7 (io), 36 IN/MC1-6 (io), 37 GND (power), 38 IN/MC1-5 (io), 39 IN/MC1-4 (io), 40 IN/MC1-3 (io), 41 IN/MC1-2 (io), 42 IN/MC1-1 (io), 43 VCC (power), 44 IN/MC8-9 (io), 45 IN/MC8-8 (io), 46 IN/MC8-7 (io), 47 IN/MC8-6 (io), 48 IN/MC8-5 (io), 49 GND (power), 50 IN/MC8-4 (io), 51 IN/MC8-3 (io), 52 IN/MC8-2 (io), 53 IN/MC8-1 (io), 54 IN/MC7-9 (io), 55 IN/MC7-8 (io), 56 IN/MC7-7 (io), 57 IN/MC7-6 (io), 58 IN/MC7-5 (io), 59 GND hidden to GND, 60 IN/MC7-4 (io), 61 IN/MC7-3 (io), 62 IN/MC7-2 (io), 63 IN/MC7-1 (io), 64 VCC (power), 65 MC6-8 (out), 66 MC6-7 (out), 67 MC6-6 (out), 68 MC6-5 (out), 69 GND (power), 70 MC6-4 (out), 71 MC6-3 (out), 72 MC6-2 (out), 73 MC6-1 (out), 74 IN/MC5-4 (io), 75 IN/MC5-3 (io), 76 IN/MC5-2 (io), 77 IN/MC5-1 (io), 78 GND (power), 79 IN/FCI (in), 80 IN/FCI (in), 81 IN/FCI (in), 82 IN/FCI (in), 83 IN/FCI (in), 84 IN/FCI (in)

## xc7272pc68
designator U?
XC7200 Macrocell CMOS EPLD [SM]; Published: 16-Jul-2002; LatestRevisionDate: 17-Jul-2002; LatestRevisionNote: Re-released for DXP Platform.; Publisher: Altium Limited
footprint QCC-J68/Y1.9
pins: 1 MR (in), 2 IN/FCI (in), 3 IN/FCI (in), 4 IN/FCI (in), 5 IN/FCI (in), 6 GND (power), 7 FCLK0 (io), 8 FCLK1 (io), 9 IN (in), 10 IN (in), 11 MC3-8 (out), 12 MC3-7 (out), 13 MC3-6 (out), 14 MC3-5 (out), 15 GND (power), 16 VCC (power), 17 IN/MC2-9 (io), 18 IN/MC2-8 (io), 19 IN/MC2-7 (io), 20 IN/MC2-6 (io), 21 GND (power), 22 IN/MC2-5 (io), 23 IN/MC2-4 (io), 24 IN/MC2-3 (io), 25 IN/MC2-2 (io), 26 IN/MC2-1 (io), 27 IN/MC1-9 (io), 28 IN/MC1-8 (io), 29 IN/MC1-7 (io), 30 IN/MC1-6 (io), 31 GND (power), 32 IN/MC1-5 (io), 33 IN/MC1-4 (io), 34 IN/MC1-3 (io), 35 VCC (power), 36 IN/MC8-7 (io), 37 IN/MC8-6 (io), 38 IN/MC8-5 (io), 39 GND (power), 40 IN/MC8-4 (io), 41 IN/MC8-3 (io), 42 IN/MC8-2 (io), 43 IN/MC8-1 (io), 44 IN/MC7-9 (io), 45 IN/MC7-8 (io), 46 IN/MC7-7 (io), 47 IN/MC7-6 (io), 48 IN/MC7-5 (io), 49 GND (power), 50 IN/MC7-4 (io), 51 IN/MC7-3 (io), 52 IN/MC7-2 (io), 53 IN/MC7-1 (io), 54 VCC (power), 55 MC6-8 (out), 56 MC6-7 (out), 57 MC6-6 (out), 58 MC6-5 (out), 59 GND hidden to GND, 60 IN/MC5-4 (io), 61 IN/MC5-3 (io), 62 IN/MC5-2 (io), 63 IN/MC5-1 (io), 64 GND (power), 65 IN/FCI (in), 66 IN/FCI (in), 67 IN/FCI (in), 68 IN/FCI (in)

## xc7272pc84
designator U?
XC7200 Macrocell CMOS EPLD [SM]; Published: 16-Jul-2002; LatestRevisionDate: 17-Jul-2002; LatestRevisionNote: Re-released for DXP Platform.; Publisher: Altium Limited
footprint QCC-J84/Y1.8
pins: 1 MR (in), 2 IN/FCI (in), 3 IN/FCI (in), 4 IN/FCI (in), 5 IN/FCI (in), 6 IN/FCI (in), 7 IN/FCI (in), 8 GND (power), 9 FCLK0/MC4-4 (io), 10 FCLK1/MC4-3 (io), 11 IN/MC4-2 (io), 12 IN/MC4-1 (io), 13 MC3-8 (out), 14 MC3-7 (out), 15 MC3-6 (out), 16 MC3-5 (out), 17 GND (power), 18 MC3-4 (out), 19 MC3-3 (out), 20 MC3-2 (out), 21 MC3-1 (out), 22 VCC (power), 23 IN/MC2-9 (io), 24 IN/MC2-8 (io), 25 IN/MC2-7 (io), 26 IN/MC2-6 (io), 27 GND (power), 28 IN/MC2-5 (io), 29 IN/MC2-4 (io), 30 IN/MC2-3 (out), 31 IN/MC2-2 (io), 32 IN/MC2-1 (io), 33 IN/MC1-9 (io), 34 IN/MC1-8 (io), 35 IN/MC1-7 (io), 36 IN/MC1-6 (io), 37 GND (power), 38 IN/MC1-5 (io), 39 IN/MC1-4 (io), 40 IN/MC1-3 (io), 41 IN/MC1-2 (io), 42 IN/MC1-1 (io), 43 VCC (power), 44 IN/MC8-9 (io), 45 IN/MC8-8 (io), 46 IN/MC8-7 (io), 47 IN/MC8-6 (io), 48 IN/MC8-5 (io), 49 GND (power), 50 IN/MC8-4 (io), 51 IN/MC8-3 (io), 52 IN/MC8-2 (io), 53 IN/MC8-1 (io), 54 IN/MC7-9 (io), 55 IN/MC7-8 (io), 56 IN/MC7-7 (io), 57 IN/MC7-6 (io), 58 IN/MC7-5 (io), 59 GND hidden to GND, 60 IN/MC7-4 (io), 61 IN/MC7-3 (io), 62 IN/MC7-2 (io), 63 IN/MC7-1 (io), 64 VCC (power), 65 MC6-8 (out), 66 MC6-7 (out), 67 MC6-6 (out), 68 MC6-5 (out), 69 GND (power), 70 MC6-4 (out), 71 MC6-3 (out), 72 MC6-2 (out), 73 MC6-1 (out), 74 IN/MC5-4 (io), 75 IN/MC5-3 (io), 76 IN/MC5-2 (io), 77 IN/MC5-1 (io), 78 GND (power), 79 IN/FCI (in), 80 IN/FCI (in), 81 IN/FCI (in), 82 IN/FCI (in), 83 IN/FCI (in), 84 IN/FCI (in)

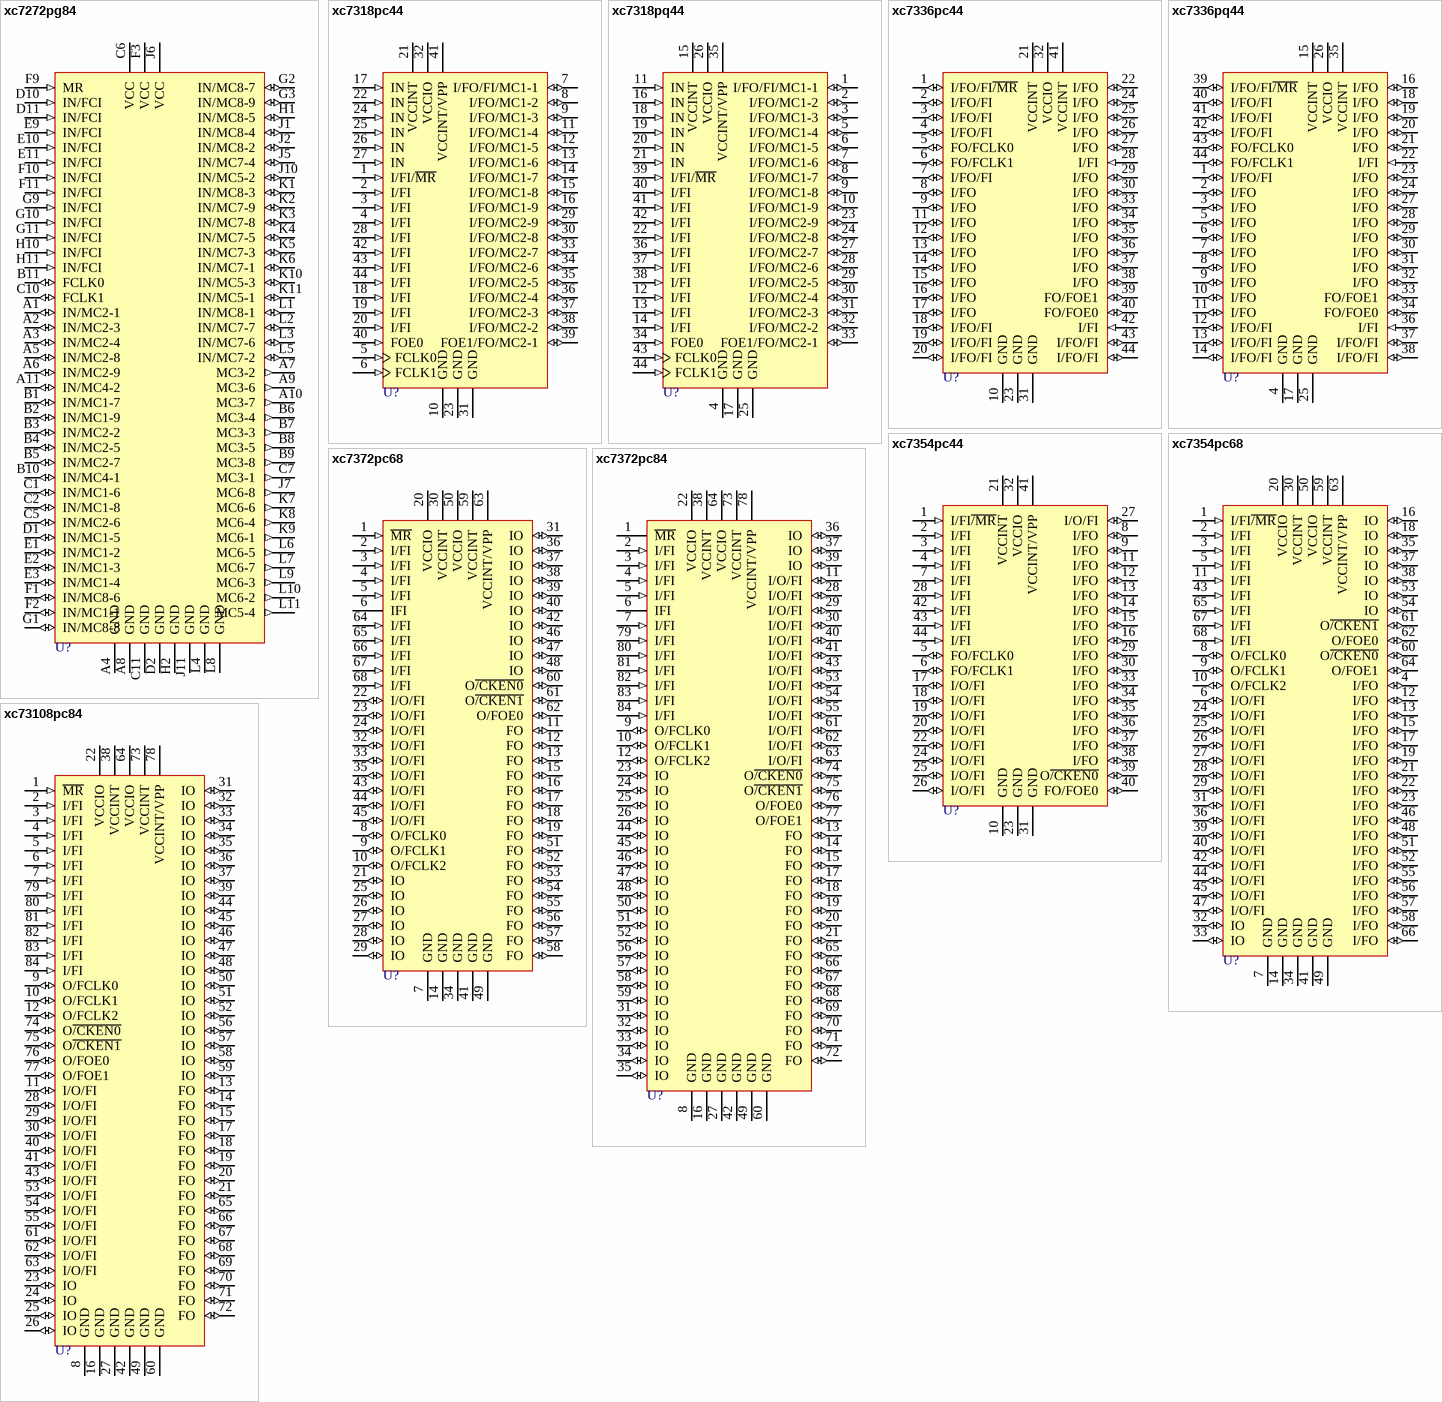
[diagram p17: symbols xc7272pg84 to xc73108pc84]

## xc7272pg84
designator U?
XC7200 Macrocell CMOS EPLD [Through-Hole]; Published: 16-Jul-2002; LatestRevisionDate: 17-Jul-2002; LatestRevisionNote: Re-released for DXP Platform.; Publisher: Altium Limited
footprint PGA28x28-P85
pins: A1 IN/MC2-1 (io), A2 IN/MC2-3 (io), A3 IN/MC2-4 (io), A4 GND (power), A5 IN/MC2-8 (io), A6 IN/MC2-9 (io), A7 MC3-2 (out), A8 GND (power), A9 MC3-6 (out), A10 MC3-7 (out), A11 IN/MC4-2 (io), B1 IN/MC1-7 (io), B2 IN/MC1-9 (io), B3 IN/MC2-2 (io), B4 IN/MC2-5 (io), B5 IN/MC2-7 (io), B6 MC3-4 (out), B7 MC3-3 (out), B8 MC3-5 (out), B9 MC3-8 (out), B10 IN/MC4-1 (io), B11 FCLK0 (io), C1 IN/MC1-6 (io), C2 IN/MC1-8 (io), C5 IN/MC2-6 (io), C6 VCC (power), C7 MC3-1 (out), C10 FCLK1 (io), C11 GND (power), D1 IN/MC1-5 (io), D2 GND (power), D10 IN/FCI (in), D11 IN/FCI (in), E1 IN/MC1-2 (io), E2 IN/MC1-3 (io), E3 IN/MC1-4 (io), E9 IN/FCI (in), E10 IN/FCI (in), E11 IN/FCI (in), F1 IN/MC8-6 (io), F2 IN/MC1-1 (io), F3 VCC (power), F9 MR (in), F10 IN/FCI (in), F11 IN/FCI (in), G1 IN/MC8-8 (io), G2 IN/MC8-7 (io), G3 IN/MC8-9 (io), G9 IN/FCI (in), G10 IN/FCI (in), G11 IN/FCI (in), H1 IN/MC8-5 (io), H2 GND (power), H10 IN/FCI (in), H11 IN/FCI (in), J1 IN/MC8-4 (io), J2 IN/MC8-2 (io), J5 IN/MC7-4 (io), J6 VCC (power), J7 MC6-8 (out), J10 IN/MC5-2 (io), J11 GND (power), K1 IN/MC8-3 (io), K2 IN/MC7-9 (io), K3 IN/MC7-8 (io), K4 IN/MC7-5 (io), K5 IN/MC7-3 (io), K6 IN/MC7-1 (io), K7 MC6-6 (out), K8 MC6-4 (out), K9 MC6-1 (out), K10 IN/MC5-3 (io), K11 IN/MC5-1 (io), L1 IN/MC8-1 (io), L2 IN/MC7-7 (io), L3 IN/MC7-6 (io), L4 GND (power), L5 IN/MC7-2 (io), L6 MC6-5 (out), L7 MC6-7 (out), L8 GND (power), L9 MC6-3 (out), L10 MC6-2 (out), L11 MC5-4 (out)

## xc7318pc44
designator U?
XC7318 CMOS EPLD (18 Macrocell); Published: 16-Jul-2002; LatestRevisionDate: 17-Jul-2002; LatestRevisionNote: Re-released for DXP Platform.; Publisher: Altium Limited
footprint QCC-J44
pins: 1 I/FI/~{MR} (in), 2 I/FI (in), 3 I/FI (in), 4 I/FI (in), 5 FCLK0 (in), 6 FCLK1 (in), 7 I/FO/FI/MC1-1 (io), 8 I/FO/MC1-2 (io), 9 I/FO/MC1-3 (io), 10 GND (power), 11 I/FO/MC1-4 (io), 12 I/FO/MC1-5 (io), 13 I/FO/MC1-6 (io), 14 I/FO/MC1-7 (io), 15 I/FO/MC1-8 (io), 16 I/FO/MC1-9 (io), 17 IN (in), 18 I/FI (in), 19 I/FI (in), 20 I/FI (in), 21 VCCINT (power), 22 IN (in), 23 GND (power), 24 IN (in), 25 IN (in), 26 IN (in), 27 IN (in), 28 I/FI (in), 29 I/FO/MC2-9 (io), 30 I/FO/MC2-8 (io), 31 GND (power), 32 VCCIO (power), 33 I/FO/MC2-7 (io), 34 I/FO/MC2-6 (io), 35 I/FO/MC2-5 (io), 36 I/FO/MC2-4 (io), 37 I/FO/MC2-3 (io), 38 I/FO/MC2-2 (io), 39 FOE1/FO/MC2-1 (io), 40 FOE0 (in), 41 VCCINT/VPP (power), 42 I/FI (in), 43 I/FI (in), 44 I/FI (in)

## xc7318pq44
designator U?
XC7318 CMOS EPLD (18 Macrocell); Published: 16-Jul-2002; LatestRevisionDate: 17-Jul-2002; LatestRevisionNote: Re-released for DXP Platform.; Publisher: Altium Limited
footprint QFP10x10-G44/N
pins: 1 I/FO/FI/MC1-1 (io), 2 I/FO/MC1-2 (io), 3 I/FO/MC1-3 (io), 4 GND (power), 5 I/FO/MC1-4 (io), 6 I/FO/MC1-5 (io), 7 I/FO/MC1-6 (io), 8 I/FO/MC1-7 (io), 9 I/FO/MC1-8 (io), 10 I/FO/MC1-9 (io), 11 IN (in), 12 I/FI (in), 13 I/FI (in), 14 I/FI (in), 15 VCCINT (power), 16 IN (in), 17 GND (power), 18 IN (in), 19 IN (in), 20 IN (in), 21 IN (in), 22 I/FI (in), 23 I/FO/MC2-9 (io), 24 I/FO/MC2-8 (io), 25 GND (power), 26 VCCIO (power), 27 I/FO/MC2-7 (io), 28 I/FO/MC2-6 (io), 29 I/FO/MC2-5 (io), 30 I/FO/MC2-4 (io), 31 I/FO/MC2-3 (io), 32 I/FO/MC2-2 (io), 33 FOE1/FO/MC2-1 (io), 34 FOE0 (in), 35 VCCINT/VPP (power), 36 I/FI (in), 37 I/FI (in), 38 I/FI (in), 39 I/FI/~{MR} (in), 40 I/FI (in), 41 I/FI (in), 42 I/FI (in), 43 FCLK0 (in), 44 FCLK1 (in)

## xc7336pc44
designator U?
XC7300 CMOS EPLD (36 Macrocell); Published: 16-Jul-2002; LatestRevisionDate: 17-Jul-2002; LatestRevisionNote: Re-released for DXP Platform.; Publisher: Altium Limited
footprint QCC-J44
pins: 1 I/FO/FI~{/MR} (io), 2 I/FO/FI (io), 3 I/FO/FI (io), 4 I/FO/FI (io), 5 FO/FCLK0 (io), 6 FO/FCLK1 (io), 7 I/FO/FI (io), 8 I/FO (io), 9 I/FO (io), 10 GND (power), 11 I/FO (io), 12 I/FO (io), 13 I/FO (io), 14 I/FO (io), 15 I/FO (io), 16 I/FO (io), 17 I/FO (io), 18 I/FO/FI (io), 19 I/FO/FI (io), 20 I/FO/FI (io), 21 VCCINT (power), 22 I/FO (io), 23 GND (power), 24 I/FO (io), 25 I/FO (io), 26 I/FO (io), 27 I/FO (io), 28 I/FI (in), 29 I/FO (io), 30 I/FO (io), 31 GND (power), 32 VCCIO (power), 33 I/FO (io), 34 I/FO (io), 35 I/FO (io), 36 I/FO (io), 37 I/FO (io), 38 I/FO (io), 39 FO/FOE1 (io), 40 FO/FOE0 (io), 41 VCCINT (power), 42 I/FI (in), 43 I/FO/FI (io), 44 I/FO/FI (io)

## xc7336pq44
designator U?
XC7300 CMOS EPLD (36 Macrocell); Published: 16-Jul-2002; LatestRevisionDate: 17-Jul-2002; LatestRevisionNote: Re-released for DXP Platform.; Publisher: Altium Limited
footprint QFP10x10-G44/N
pins: 1 I/FO/FI (io), 2 I/FO (io), 3 I/FO (io), 4 GND (power), 5 I/FO (io), 6 I/FO (io), 7 I/FO (io), 8 I/FO (io), 9 I/FO (io), 10 I/FO (io), 11 I/FO (io), 12 I/FO/FI (io), 13 I/FO/FI (io), 14 I/FO/FI (io), 15 VCCINT (power), 16 I/FO (io), 17 GND (power), 18 I/FO (io), 19 I/FO (io), 20 I/FO (io), 21 I/FO (io), 22 I/FI (in), 23 I/FO (io), 24 I/FO (io), 25 GND (power), 26 VCCIO (power), 27 I/FO (io), 28 I/FO (io), 29 I/FO (io), 30 I/FO (io), 31 I/FO (io), 32 I/FO (io), 33 FO/FOE1 (io), 34 FO/FOE0 (io), 35 VCCINT (power), 36 I/FI (in), 37 I/FO/FI (io), 38 I/FO/FI (io), 39 I/FO/FI~{/MR} (io), 40 I/FO/FI (io), 41 I/FO/FI (io), 42 I/FO/FI (io), 43 FO/FCLK0 (io), 44 FO/FCLK1 (io)

## xc7354pc44
designator U?
XC7300 CMOS EPLD (54 Macrocell) [SM]; Published: 16-Jul-2002; LatestRevisionDate: 17-Jul-2002; LatestRevisionNote: Re-released for DXP Platform.; Publisher: Altium Limited
footprint QCC-J44
pins: 1 I/FI~{/MR} (in), 2 I/FI (in), 3 I/FI (in), 4 I/FI (in), 5 FO/FCLK0 (io), 6 FO/FCLK1 (io), 7 I/FI (in), 8 I/FO (io), 9 I/FO (io), 10 GND (power), 11 I/FO (io), 12 I/FO (io), 13 I/FO (io), 14 I/FO (io), 15 I/FO (io), 16 I/FO (io), 17 I/O/FI (io), 18 I/O/FI (io), 19 I/O/FI (io), 20 I/O/FI (io), 21 VCCINT (power), 22 I/O/FI (io), 23 GND (power), 24 I/O/FI (io), 25 I/O/FI (io), 26 I/O/FI (io), 27 I/O/FI (io), 28 I/FI (in), 29 I/FO (io), 30 I/FO (io), 31 GND (power), 32 VCCIO (power), 33 I/FO (io), 34 I/FO (io), 35 I/FO (io), 36 I/FO (io), 37 I/FO (io), 38 I/FO (io), 39 O~{/CKEN0} (io), 40 FO/FOE0 (io), 41 VCCINT/VPP (power), 42 I/FI (in), 43 I/FI (in), 44 I/FI (in)

## xc7354pc68
designator U?
XC7300 CMOS EPLD (54 Macrocell) [SM]; Published: 16-Jul-2002; LatestRevisionDate: 17-Jul-2002; LatestRevisionNote: Re-released for DXP Platform.; Publisher: Altium Limited
footprint QCC-J68/Y1.9
pins: 1 I/FI~{/MR} (in), 2 I/FI (in), 3 I/FI (in), 4 I/FO (io), 5 I/FI (in), 6 I/O/FI (io), 7 GND (power), 8 O/FCLK0 (io), 9 O/FCLK1 (io), 10 O/FCLK2 (io), 11 I/FI (in), 12 I/FO (io), 13 I/FO (io), 14 GND (power), 15 I/FO (io), 16 IO (io), 17 I/FO (io), 18 IO (io), 19 I/FO (io), 20 VCCIO (power), 21 I/FO (io), 22 I/FO (io), 23 I/FO (io), 24 I/O/FI (io), 25 I/O/FI (io), 26 I/O/FI (io), 27 I/O/FI (io), 28 I/O/FI (io), 29 I/O/FI (io), 30 VCCINT (power), 31 I/O/FI (io), 32 IO (io), 33 IO (io), 34 GND (power), 35 IO (io), 36 I/O/FI (io), 37 IO (io), 38 IO (io), 39 I/O/FI (io), 40 I/O/FI (io), 41 GND (power), 42 I/O/FI (io), 43 I/FI (in), 44 I/O/FI (io), 45 I/O/FI (io), 46 I/FO (io), 47 I/O/FI (io), 48 I/FO (io), 49 GND (power), 50 VCCIO (power), 51 I/FO (io), 52 I/FO (io), 53 IO (io), 54 IO (io), 55 I/FO (io), 56 I/FO (io), 57 I/FO (io), 58 I/FO (io), 59 VCCINT (power), 60 O~{/CKEN0} (io), 61 O~{/CKEN1} (io), 62 O/FOE0 (io), 63 VCCINT/VPP (power), 64 O/FOE1 (io), 65 I/FI (in), 66 I/FO (io), 67 I/FI (in), 68 I/FI (in)

## xc7372pc68
designator U?
XC7300 CMOS EPLD (72 Macrocell) [SM]; Published: 16-Jul-2002; LatestRevisionDate: 17-Jul-2002; LatestRevisionNote: Re-released for DXP Platform.; Publisher: Altium Limited
footprint QCC-J68/Y1.9
pins: 1 ~{MR} (in), 2 I/FI (in), 3 I/FI (in), 4 I/FI (in), 5 I/FI (in), 6 IFI, 7 GND (power), 8 O/FCLK0 (io), 9 O/FCLK1 (io), 10 O/FCLK2 (io), 11 FO (io), 12 FO (io), 13 FO (io), 14 GND (power), 15 FO (io), 16 FO (io), 17 FO (io), 18 FO (io), 19 FO (io), 20 VCCIO (power), 21 IO (io), 22 I/O/FI (io), 23 I/O/FI (io), 24 I/O/FI (io), 25 IO (io), 26 IO (io), 27 IO (io), 28 IO (io), 29 IO (io), 30 VCCINT (power), 31 IO (io), 32 I/O/FI (io), 33 I/O/FI (io), 34 GND (power), 35 I/O/FI (io), 36 IO (io), 37 IO (io), 38 IO (io), 39 IO (io), 40 IO (io), 41 GND (power), 42 IO (io), 43 I/O/FI (io), 44 I/O/FI (io), 45 I/O/FI (io), 46 IO (io), 47 IO (io), 48 IO (io), 49 GND (power), 50 VCCIO (power), 51 FO (io), 52 FO (io), 53 FO (io), 54 FO (io), 55 FO (io), 56 FO (io), 57 FO (io), 58 FO (io), 59 VCCINT (power), 60 O~{/CKEN0} (io), 61 O~{/CKEN1} (io), 62 O/FOE0 (io), 63 VCCINT/VPP (power), 64 I/FI (in), 65 I/FI (in), 66 I/FI (in), 67 I/FI (in), 68 I/FI (in)

## xc7372pc84
designator U?
XC7300 CMOS EPLD (72 Macrocell) [SM]; Published: 16-Jul-2002; LatestRevisionDate: 17-Jul-2002; LatestRevisionNote: Re-released for DXP Platform.; Publisher: Altium Limited
footprint QCC-J84/Y1.8
pins: 1 ~{MR}, 2 I/FI (in), 3 I/FI (in), 4 I/FI (in), 5 I/FI (in), 6 IFI, 7 I/FI (in), 8 GND (power), 9 O/FCLK0 (io), 10 O/FCLK1 (io), 11 I/O/FI (io), 12 O/FCLK2 (io), 13 FO (io), 14 FO (io), 15 FO (io), 16 GND (power), 17 FO (io), 18 FO (io), 19 FO (io), 20 FO (io), 21 FO (io), 22 VCCIO (power), 23 IO (io), 24 IO (io), 25 IO (io), 26 IO (io), 27 GND (power), 28 I/O/FI (io), 29 I/O/FI (io), 30 I/O/FI (io), 31 IO (io), 32 IO (io), 33 IO (io), 34 IO (io), 35 IO (io), 36 IO (io), 37 IO (io), 38 VCCINT (power), 39 IO (io), 40 I/O/FI (io), 41 I/O/FI (io), 42 GND (power), 43 I/O/FI (io), 44 IO (io), 45 IO (io), 46 IO (io), 47 IO (io), 48 IO (io), 49 GND (power), 50 IO (io), 51 IO (io), 52 IO (io), 53 I/O/FI (io), 54 I/O/FI (io), 55 I/O/FI (io), 56 IO (io), 57 IO (io), 58 IO (io), 59 IO (io), 60 GND (power), 61 I/O/FI (io), 62 I/O/FI (io), 63 I/O/FI (io), 64 VCCIO (power), 65 FO (io), 66 FO (io), 67 FO (io), 68 FO (io), 69 FO (io), 70 FO (io), 71 FO (io), 72 FO (io), 73 VCCINT (power), 74 O~{/CKEN0} (io), 75 O~{/CKEN1} (io), 76 O/FOE0 (io), 77 O/FOE1 (io), 78 VCCINT/VPP (power), 79 I/FI (in), 80 I/FI (in), 81 I/FI (in), 82 I/FI (in), 83 I/FI (in), 84 I/FI (in)

## xc73108pc84
designator U?
XC73000 CMOS EPLD (108 Macrocell) [SM]; Published: 16-Jul-2002; LatestRevisionDate: 17-Jul-2002; LatestRevisionNote: Re-released for DXP Platform.; Publisher: Altium Limited
footprint QCC-J84/Y1.8
pins: 1 ~{MR} (in), 2 I/FI (in), 3 I/FI (in), 4 I/FI (in), 5 I/FI (in), 6 I/FI (in), 7 I/FI (in), 8 GND (power), 9 O/FCLK0 (io), 10 O/FCLK1 (io), 11 I/O/FI (io), 12 O/FCLK2 (io), 13 FO (io), 14 FO (io), 15 FO (io), 16 GND (power), 17 FO (io), 18 FO (io), 19 FO (io), 20 FO (io), 21 FO (io), 22 VCCIO (power), 23 IO (io), 24 IO (io), 25 IO (io), 26 IO (io), 27 GND (power), 28 I/O/FI (io), 29 I/O/FI (io), 30 I/O/FI (io), 31 IO (io), 32 IO (io), 33 IO (io), 34 IO (io), 35 IO (io), 36 IO (io), 37 IO (io), 38 VCCINT (power), 39 IO (io), 40 I/O/FI (io), 41 I/O/FI (io), 42 GND (power), 43 I/O/FI (io), 44 IO (io), 45 IO (io), 46 IO (io), 47 IO (io), 48 IO (io), 49 GND (power), 50 IO (io), 51 IO (io), 52 IO (io), 53 I/O/FI (io), 54 I/O/FI (io), 55 I/O/FI (io), 56 IO (io), 57 IO (io), 58 IO (io), 59 IO (io), 60 GND (power), 61 I/O/FI (io), 62 I/O/FI (io), 63 I/O/FI (io), 64 VCCIO (power), 65 FO (io), 66 FO (io), 67 FO (io), 68 FO (io), 69 FO (io), 70 FO (io), 71 FO (io), 72 FO (io), 73 VCCINT (power), 74 O~{/CKEN0} (io), 75 O~{/CKEN1} (io), 76 O/FOE0 (io), 77 O/FOE1 (io), 78 VCCINT/VPP (power), 79 I/FI (in), 80 I/FI (in), 81 I/FI (in), 82 I/FI (in), 83 I/FI (in), 84 I/FI (in)

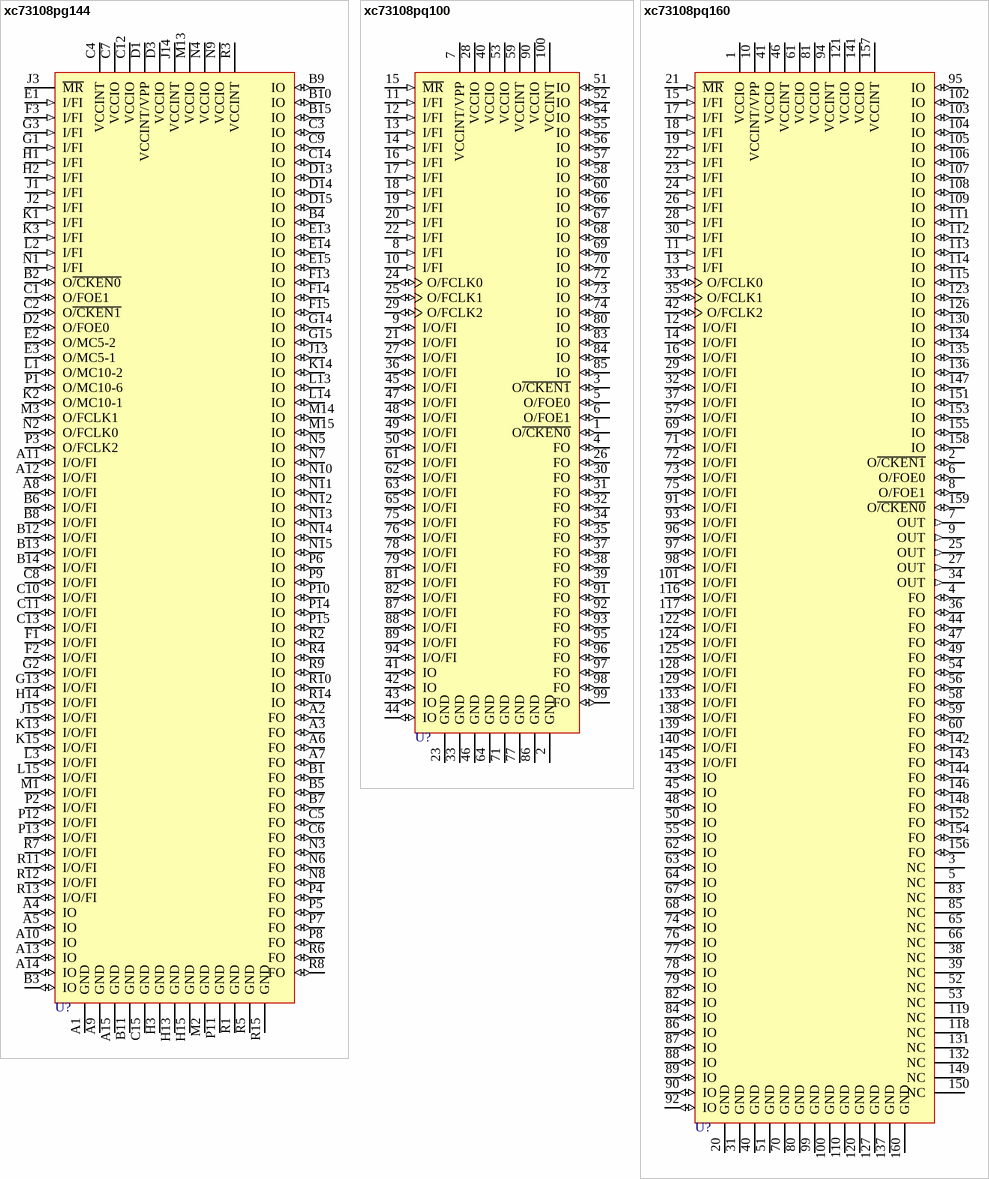
[diagram p18: symbols xc73108pg144 to xc73108pq160]

## xc73108pg144
designator U?
XC73000 CMOS EPLD (108 Macrocell) [Through-Hole]; Published: 16-Jul-2002; LatestRevisionDate: 17-Jul-2002; LatestRevisionNote: Re-released for DXP Platform.; Publisher: Altium Limited
footprint PGA40x40-P145/D40.5
pins: A1 GND (power), A2 FO (io), A3 FO (io), A4 IO (io), A5 IO (io), A6 FO (io), A7 FO (io), A8 I/O/FI (io), A9 GND (power), A10 IO (io), A11 I/O/FI (io), A12 I/O/FI (io), A13 IO (io), A14 IO (io), A15 GND (power), B1 FO (io), B2 O~{/CKEN0} (io), B3 IO (io), B4 IO (io), B5 FO (io), B6 I/O/FI (io), B7 FO (io), B8 I/O/FI (io), B9 IO (io), B10 IO (io), B11 GND (power), B12 I/O/FI (io), B13 I/O/FI (io), B14 I/O/FI (io), B15 IO (io), C1 O/FOE1 (io), C2 O~{/CKEN1} (io), C3 IO (io), C4 VCCINT (power), C5 FO (io), C6 FO (io), C7 VCCIO (power), C8 I/O/FI (io), C9 IO (io), C10 I/O/FI (io), C11 I/O/FI (io), C12 VCCIO (power), C13 I/O/FI (io), C14 IO (io), C15 GND (power), D1 VCCINT/VPP (power), D2 O/FOE0 (io), D3 VCCIO (power), D13 IO (io), D14 IO (io), D15 IO (io), E1 I/FI (in), E2 O/MC5-2 (io), E3 O/MC5-1 (io), E13 IO (io), E14 IO (io), E15 IO (io), F1 I/O/FI (io), F2 I/O/FI (io), F3 I/FI (in), F13 IO (io), F14 IO (io), F15 IO (io), G1 I/FI (in), G2 I/O/FI (io), G3 I/FI (in), G13 I/O/FI (io), G14 IO (io), G15 IO (io), H1 I/FI (in), H2 I/FI (in), H3 GND (power), H13 GND (power), H14 I/O/FI (io), H15 GND (power), J1 I/FI (in), J2 I/FI (in), J3 ~{MR}, J13 IO (io), J14 VCCINT (power), J15 I/O/FI (io), K1 I/FI (in), K2 O/MC10-1 (io), K3 I/FI (in), K13 I/O/FI (io), K14 IO (io), K15 I/O/FI (io), L1 O/MC10-2 (io), L2 I/FI (in), L3 I/O/FI (io), L13 IO (io), L14 IO (io), L15 I/O/FI (io), M1 I/O/FI (io), M2 GND (power), M3 O/FCLK1 (io), M13 VCCIO (power), M14 IO (io), M15 IO (io), N1 I/FI (in), N2 O/FCLK0 (io), N3 FO (io), N4 VCCIO (power), N5 IO (io), N6 FO (io), N7 IO (io), N8 FO (io), N9 VCCIO (power), N10 IO (io), N11 IO (io), N12 IO (io), N13 IO (io), N14 IO (io), N15 IO (io), P1 O/MC10-6 (io), P2 I/O/FI (io), P3 O/FCLK2 (io), P4 FO (io), P5 FO (io), P6 IO (io), P7 FO (io), P8 FO (io), P9 IO (io), P10 IO (io), P11 GND (power), P12 I/O/FI (io), P13 I/O/FI (io), P14 IO (io), P15 IO (io), R1 GND (power), R2 IO (io), R3 VCCINT (power), R4 IO (io), R5 GND (power), R6 FO (io), R7 I/O/FI (io), R8 FO (io), R9 IO (io), R10 IO (io), R11 I/O/FI (io), R12 I/O/FI (io), R13 I/O/FI (io), R14 IO (io), R15 GND (power)

## xc73108pq100
designator U?
XC73108 CMOS PLD; Published: 16-Jul-2002; LatestRevisionDate: 17-Jul-2002; LatestRevisionNote: Re-released for DXP Platform.; Publisher: Altium Limited
footprint R-QFP14x20-G100/Y1.7N
pins: 1 O~{/CKEN0} (io), 2 GND (power), 3 O~{/CKEN1} (io), 4 FO (io), 5 O/FOE0 (io), 6 O/FOE1 (io), 7 VCCINT/VPP (power), 8 I/FI (in), 9 I/O/FI (io), 10 I/FI (in), 11 I/FI (in), 12 I/FI (in), 13 I/FI (in), 14 I/FI (in), 15 ~{MR} (in), 16 I/FI (in), 17 I/FI (in), 18 I/FI (in), 19 I/FI (in), 20 I/FI (in), 21 I/O/FI (io), 22 I/FI (in), 23 GND (power), 24 O/FCLK0 (io), 25 O/FCLK1 (io), 26 FO (io), 27 I/O/FI (io), 28 VCCIO (power), 29 O/FCLK2 (io), 30 FO (io), 31 FO (io), 32 FO (io), 33 GND (power), 34 FO (io), 35 FO (io), 36 I/O/FI (io), 37 FO (io), 38 FO (io), 39 FO (io), 40 VCCIO (power), 41 IO (io), 42 IO (io), 43 IO (io), 44 IO (io), 45 I/O/FI (io), 46 GND (power), 47 I/O/FI (io), 48 I/O/FI (io), 49 I/O/FI (io), 50 I/O/FI (io), 51 IO (io), 52 IO (io), 53 VCCIO (power), 54 IO (io), 55 IO (io), 56 IO (io), 57 IO (io), 58 IO (io), 59 VCCINT (power), 60 IO (io), 61 I/O/FI (io), 62 I/O/FI (io), 63 I/O/FI (io), 64 GND (power), 65 I/O/FI (io), 66 IO (io), 67 IO (io), 68 IO (io), 69 IO (io), 70 IO (io), 71 GND (power), 72 IO (io), 73 IO (io), 74 IO (io), 75 I/O/FI (io), 76 I/O/FI (io), 77 GND (power), 78 I/O/FI (io), 79 I/O/FI (io), 80 IO (io), 81 I/O/FI (io), 82 I/O/FI (io), 83 IO (io), 84 IO (io), 85 IO (io), 86 GND (power), 87 I/O/FI (io), 88 I/O/FI (io), 89 I/O/FI (io), 90 VCCIO (power), 91 FO (io), 92 FO (io), 93 FO (io), 94 I/O/FI (io), 95 FO (io), 96 FO (io), 97 FO (io), 98 FO (io), 99 FO (io), 100 VCCINT (power)